# Altium schematic symbol library Connector.SchLib: 400 symbols (part 1 of 5)
Pins are listed as number, name and electrical type; pins without a type are passive.

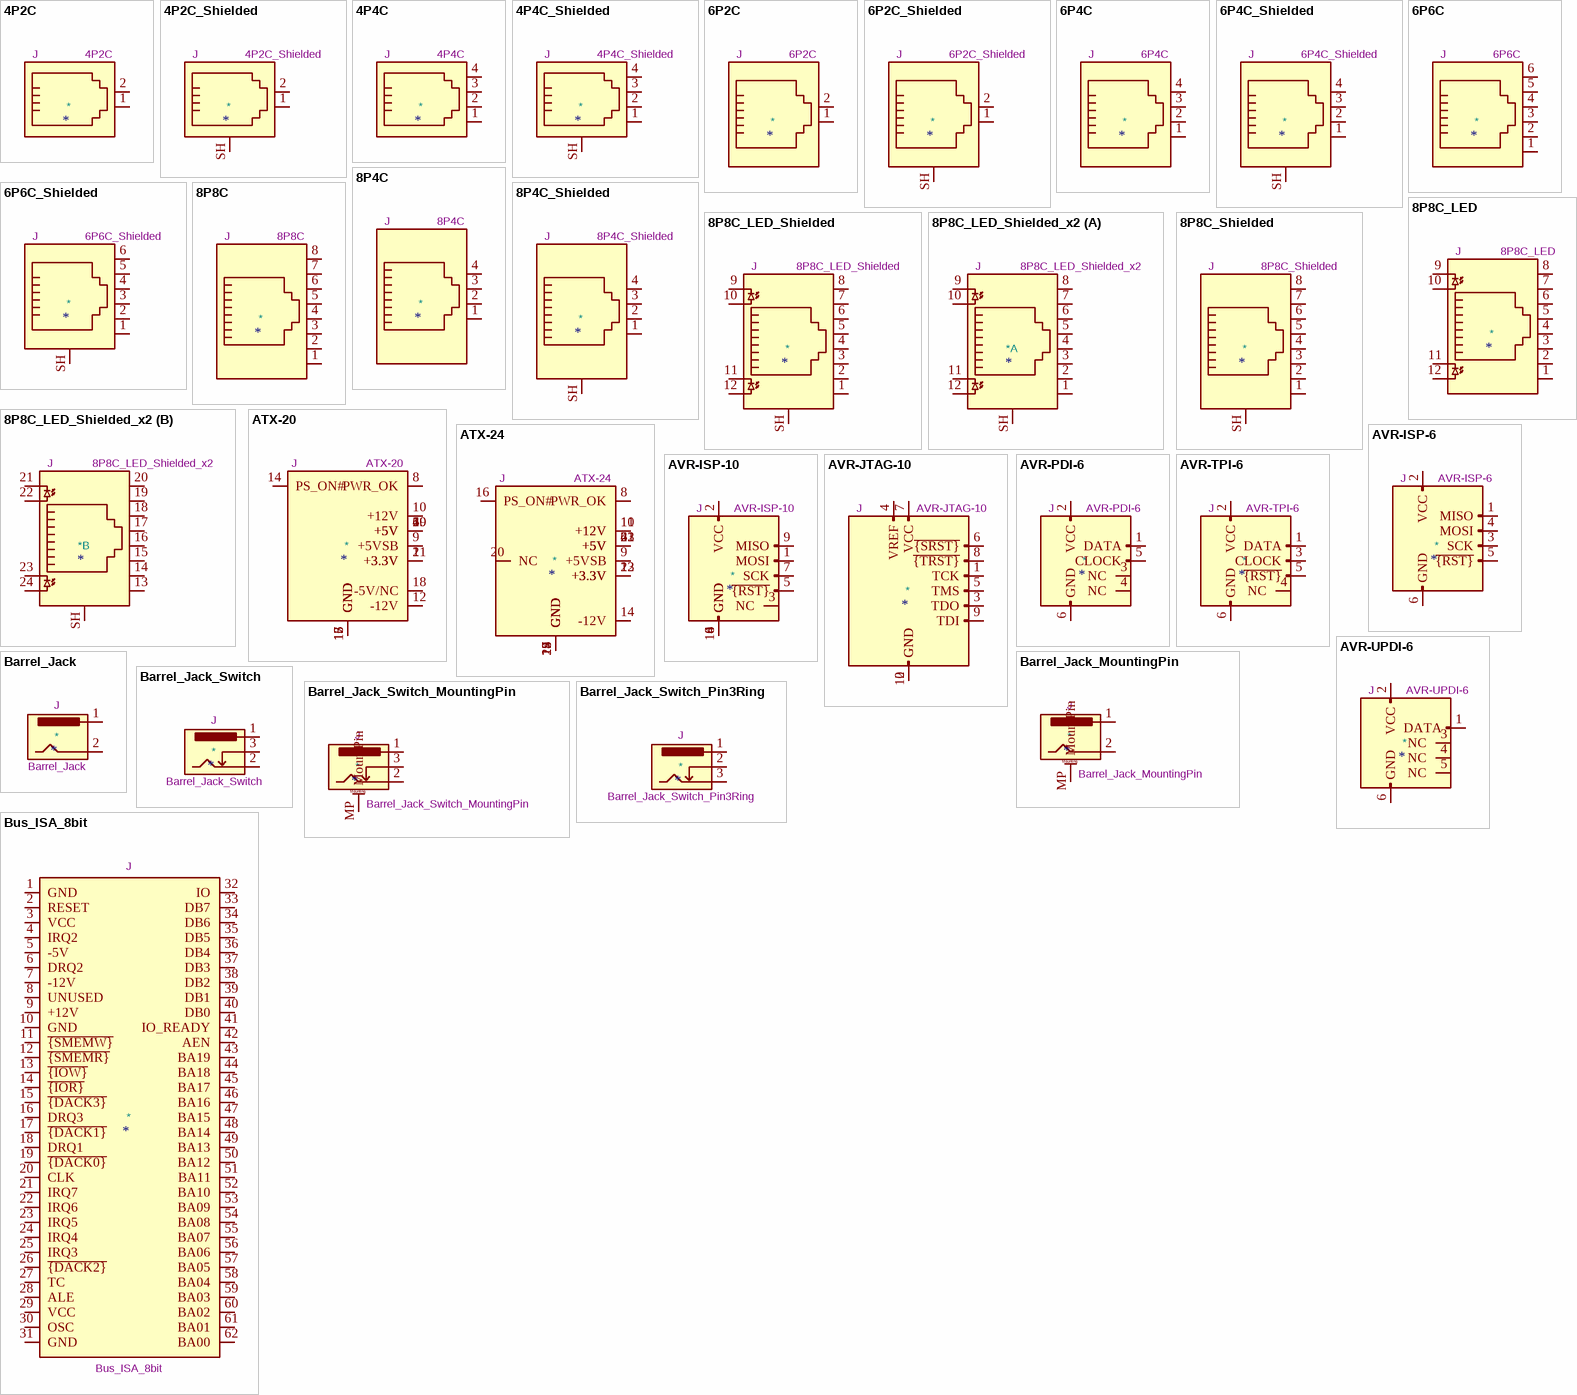
[diagram p0: symbols 4P2C to Bus_ISA_8bit]

## 4P2C
designator *  value 4P2C  Reference: J
RJ connector, 4P2C (4 positions 2 connected); ki_keywords: 4P2C RJ socket connector; ki_fp_filters: 4P2C*; Datasheet: ~; Description_: RJ connector, 4P2C (4 positions 2 connected)
pins: 1, 2

## 4P2C_Shielded
designator *  value 4P2C_Shielded  Reference: J
RJ connector, 4P2C (4 positions 2 connected), Shielded; ki_keywords: 4P2C RJ socket connector; ki_fp_filters: 4P2C*; Datasheet: ~; Description_: RJ connector, 4P2C (4 positions 2 connected), Shielded
pins: 1, 2, SH

## 4P4C
designator *  value 4P4C  Reference: J
RJ connector, 4P4C (4 positions 4 connected), RJ9/RJ10/RJ22; ki_keywords: 4P4C RJ socket connector; ki_fp_filters: 4P4C* RJ9* RJ10* RJ22*; Datasheet: ~; Description_: RJ connector, 4P4C (4 positions 4 connected), RJ9/RJ10/RJ22
pins: 1, 2, 3, 4

## 4P4C_Shielded
designator *  value 4P4C_Shielded  Reference: J
RJ connector, 4P4C (4 positions 4 connected), RJ9/RJ10/RJ22, Shielded; ki_keywords: 4P4C RJ socket connector; ki_fp_filters: 4P4C* RJ9* RJ10* RJ22*; Datasheet: ~; Description_: RJ connector, 4P4C (4 positions 4 connected), RJ9/RJ10/RJ22, Shielded
pins: 1, 2, 3, 4, SH

## 6P2C
designator *  value 6P2C  Reference: J
RJ connector, 6P2C (6 positions 2 connected), RJ11; ki_keywords: 6P2C RJ socket connector; ki_fp_filters: 6P2C* RJ11*; Datasheet: ~; Description_: RJ connector, 6P2C (6 positions 2 connected), RJ11
pins: 1, 2

## 6P2C_Shielded
designator *  value 6P2C_Shielded  Reference: J
RJ connector, 6P2C (6 positions 2 connected), RJ11, Shielded; ki_keywords: 6P2C RJ socket connector; ki_fp_filters: 6P2C* RJ11*; Datasheet: ~; Description_: RJ connector, 6P2C (6 positions 2 connected), RJ11, Shielded
pins: 1, 2, SH

## 6P4C
designator *  value 6P4C  Reference: J
RJ connector, 6P4C (6 positions 4 connected), RJ13/RJ14; ki_keywords: 6P4C RJ socket connector; ki_fp_filters: 6P4C* RJ13* RJ14*; Datasheet: ~; Description_: RJ connector, 6P4C (6 positions 4 connected), RJ13/RJ14
pins: 1, 2, 3, 4

## 6P4C_Shielded
designator *  value 6P4C_Shielded  Reference: J
RJ connector, 6P4C (6 positions 4 connected), RJ13/RJ14, Shielded; ki_keywords: 6P4C RJ socket connector; ki_fp_filters: 6P4C* RJ13* RJ14*; Datasheet: ~; Description_: RJ connector, 6P4C (6 positions 4 connected), RJ13/RJ14, Shielded
pins: 1, 2, 3, 4, SH

## 6P6C
designator *  value 6P6C  Reference: J
RJ connector, 6P6C (6 positions 6 connected), RJ12/RJ18/RJ25; ki_keywords: 6P6C RJ socket connector; ki_fp_filters: 6P6C* RJ12* RJ18* RJ25*; Datasheet: ~; Description_: RJ connector, 6P6C (6 positions 6 connected), RJ12/RJ18/RJ25
pins: 1, 2, 3, 4, 5, 6

## 6P6C_Shielded
designator *  value 6P6C_Shielded  Reference: J
RJ connector, 6P6C (6 positions 6 connected), RJ12/RJ18/RJ25, Shielded; ki_keywords: 6P6C RJ socket connector; ki_fp_filters: 6P6C* RJ12* RJ18* RJ25*; Datasheet: ~; Description_: RJ connector, 6P6C (6 positions 6 connected), RJ12/RJ18/RJ25, Shielded
pins: 1, 2, 3, 4, 5, 6, SH

## 8P4C
designator *  value 8P4C  Reference: J
RJ connector, 8P4C (8 positions 4 connected), RJ38/RJ48; ki_keywords: 8P4C RJ socket connector; ki_fp_filters: 8P4C* RJ38* RJ48*; Datasheet: ~; Description_: RJ connector, 8P4C (8 positions 4 connected), RJ38/RJ48
pins: 1, 2, 3, 4

## 8P4C_Shielded
designator *  value 8P4C_Shielded  Reference: J
RJ connector, 8P4C (8 positions 4 connected), RJ38/RJ48, Shielded; ki_keywords: 8P4C RJ socket connector; ki_fp_filters: 8P4C* RJ38* RJ48*; Datasheet: ~; Description_: RJ connector, 8P4C (8 positions 4 connected), RJ38/RJ48, Shielded
pins: 1, 2, 3, 4, SH

## 8P8C
designator *  value 8P8C  Reference: J
RJ connector, 8P8C (8 positions 8 connected), RJ31/RJ32/RJ33/RJ34/RJ35/RJ41/RJ45/RJ49/RJ61; ki_keywords: 8P8C RJ socket connector; ki_fp_filters: 8P8C* RJ31* RJ32* RJ33* RJ34* RJ35* RJ41* RJ45* RJ49* RJ61*; Datasheet: ~; Description_: RJ connector, 8P8C (8 positions 8 connected), RJ31/RJ32/RJ33/RJ34/RJ35/RJ41/RJ45/RJ49/RJ61
pins: 1, 2, 3, 4, 5, 6, 7, 8

## 8P8C_LED
designator *  value 8P8C_LED  Reference: J
RJ connector, 8P8C (8 positions 8 connected), two LEDs, RJ45; ki_keywords: 8P8C RJ socket connector led; ki_fp_filters: 8P8C* RJ45*; Datasheet: ~; Description_: RJ connector, 8P8C (8 positions 8 connected), two LEDs, RJ45
pins: 1, 2, 3, 4, 5, 6, 7, 8, 9, 10, 11, 12

## 8P8C_LED_Shielded
designator *  value 8P8C_LED_Shielded  Reference: J
RJ connector, 8P8C (8 positions 8 connected), two LEDs, RJ45, Shielded; ki_keywords: 8P8C RJ socket connector led; ki_fp_filters: 8P8C* RJ45*; Datasheet: ~; Description_: RJ connector, 8P8C (8 positions 8 connected), two LEDs, RJ45, Shielded
pins: 1, 2, 3, 4, 5, 6, 7, 8, 9, 10, 11, 12, SH

## 8P8C_LED_Shielded_x2
designator *  value 8P8C_LED_Shielded_x2  Reference: J
RJ connector, 8P8C (8 positions 8 connected), two LEDs, RJ45, Shielded, two ports; ki_keywords: 8P8C RJ socket connector led dual; ki_fp_filters: 8P8C*02* RJ45*02*; Datasheet: ~; Description_: RJ connector, 8P8C (8 positions 8 connected), two LEDs, RJ45, Shielded, two ports
part A pins: 1, 2, 3, 4, 5, 6, 7, 8, 9, 10, 11, 12, SH
part B pins: 13, 14, 15, 16, 17, 18, 19, 20, 21, 22, 23, 24, SH

## 8P8C_Shielded
designator *  value 8P8C_Shielded  Reference: J
RJ connector, 8P8C (8 positions 8 connected), RJ31/RJ32/RJ33/RJ34/RJ35/RJ41/RJ45/RJ49/RJ61, Shielded; ki_keywords: 8P8C RJ socket connector; ki_fp_filters: 8P8C* RJ31* RJ32* RJ33* RJ34* RJ35* RJ41* RJ45* RJ49* RJ61*; Datasheet: ~; Description_: RJ connector, 8P8C (8 positions 8 connected), RJ31/RJ32/RJ33/RJ34/RJ35/RJ41/RJ45/RJ49/RJ61, Shielded
pins: 1, 2, 3, 4, 5, 6, 7, 8, SH

## ATX-20
designator *  value ATX-20  Reference: J
ATX Power supply 20pins; ki_keywords: ATX PSU; ki_fp_filters: *Mini?Fit*2x10*Vertical* *Mini?Fit*2x10*Horizontal*; Datasheet: https://web.aub.edu.lb/pub/docs/atx_201.pdf#page=20; Description_: ATX Power supply 20pins
pins: 1 +3.3V, 2 +3.3V, 3 GND, 4 +5V, 5 GND, 6 +5V, 7 GND, 8 PWR_OK, 9 +5VSB, 10 +12V, 11 +3.3V, 12 -12V, 13 GND, 14 PS_ON#, 15 GND, 16 GND, 17 GND, 18 -5V/NC, 19 +5V, 20 +5V

## ATX-24
designator *  value ATX-24  Reference: J
ATX Power supply 24pins; ki_keywords: ATX PSU; ki_fp_filters: *Mini?Fit*2x12*Vertical* *Mini?Fit*2x12*Horizontal*; Datasheet: https://www.intel.com/content/dam/www/public/us/en/documents/guides/power-supply-design-guide-june.pdf#page=33; Description_: ATX Power supply 24pins
pins: 1 +3.3V, 2 +3.3V, 3 GND, 4 +5V, 5 GND, 6 +5V, 7 GND, 8 PWR_OK, 9 +5VSB, 10 +12V, 11 +12V, 12 +3.3V, 13 +3.3V, 14 -12V, 15 GND, 16 PS_ON#, 17 GND, 18 GND, 19 GND, 20 NC, 21 +5V, 22 +5V, 23 +5V, 24 GND

## AVR-ISP-6
designator *  value AVR-ISP-6  Reference: J
Atmel 6-pin ISP connector; ki_keywords: AVR ISP Connector; ki_fp_filters: IDC?Header*2x03* Pin?Header*2x03*; Datasheet: ~; Description_: Atmel 6-pin ISP connector
pins: 1 MISO, 2 VCC, 3 SCK, 4 MOSI, 5 ~{{RST}}, 6 GND

## AVR-ISP-10
designator *  value AVR-ISP-10  Reference: J
Atmel 10-pin ISP connector; ki_keywords: AVR ISP Connector; ki_fp_filters: IDC?Header*2x05* Pin?Header*2x05*; Datasheet: ~; Description_: Atmel 10-pin ISP connector
pins: 1 MOSI, 2 VCC, 3 NC, 4 GND, 5 ~{{RST}}, 6 GND, 7 SCK, 8 GND, 9 MISO, 10 GND

## AVR-JTAG-10
designator *  value AVR-JTAG-10  Reference: J
Atmel 10-pin JTAG connector; ki_keywords: AVR JTAG Connector; ki_fp_filters: IDC?Header*2x05* Pin?Header*2x05*; Datasheet: ~; Description_: Atmel 10-pin JTAG connector
pins: 1 TCK, 2 GND, 3 TDO, 4 VREF, 5 TMS, 6 ~{{SRST}}, 7 VCC, 8 ~{{TRST}}, 9 TDI, 10 GND

## AVR-PDI-6
designator *  value AVR-PDI-6  Reference: J
Atmel 6-pin PDI connector; ki_keywords: AVR PDI Connector; ki_fp_filters: IDC?Header*2x03* Pin?Header*2x03*; Datasheet: ~; Description_: Atmel 6-pin PDI connector
pins: 1 DATA, 2 VCC, 3 NC, 4 NC, 5 CLOCK, 6 GND

## AVR-TPI-6
designator *  value AVR-TPI-6  Reference: J
Atmel 6-pin TPI connector; ki_keywords: AVR TPI Connector; ki_fp_filters: IDC?Header*2x03* Pin?Header*2x03*; Datasheet: ~; Description_: Atmel 6-pin TPI connector
pins: 1 DATA, 2 VCC, 3 CLOCK, 4 NC, 5 ~{{RST}}, 6 GND

## AVR-UPDI-6
designator *  value AVR-UPDI-6  Reference: J
Atmel 6-pin UPDI connector; ki_keywords: AVR UPDI Connector; ki_fp_filters: IDC?Header*2x03* Pin?Header*2x03*; Datasheet: https://www.microchip.com/webdoc/GUID-9D10622A-5C16-4405-B092-1BDD437B4976/index.html?GUID-9B349315-2842-4189-B88C-49F4E1055D7F; Description_: Atmel 6-pin UPDI connector
pins: 1 DATA, 2 VCC, 3 NC, 4 NC, 5 NC, 6 GND

## Barrel_Jack
designator *  value Barrel_Jack  Reference: J
DC Barrel Jack; ki_keywords: DC power barrel jack connector; ki_fp_filters: BarrelJack*; Datasheet: ~; Description_: DC Barrel Jack
pins: 1, 2

## Barrel_Jack_MountingPin
designator *  value Barrel_Jack_MountingPin  Reference: J
DC Barrel Jack with a mounting pin; ki_keywords: DC power barrel jack connector; ki_fp_filters: BarrelJack*; Datasheet: ~; Description_: DC Barrel Jack with a mounting pin
pins: 1, 2, MP MountPin
text: Mounting

## Barrel_Jack_Switch
designator *  value Barrel_Jack_Switch  Reference: J
DC Barrel Jack with an internal switch; ki_keywords: DC power barrel jack connector; ki_fp_filters: BarrelJack*; Datasheet: ~; Description_: DC Barrel Jack with an internal switch
pins: 1, 2, 3

## Barrel_Jack_Switch_MountingPin
designator *  value Barrel_Jack_Switch_MountingPin  Reference: J
DC Barrel Jack with an internal switch and a mounting pin; ki_keywords: DC power barrel jack connector; ki_fp_filters: BarrelJack*; Datasheet: ~; Description_: DC Barrel Jack with an internal switch and a mounting pin
pins: 1, 2, 3, MP MountPin
text: Mounting

## Barrel_Jack_Switch_Pin3Ring
designator *  value Barrel_Jack_Switch_Pin3Ring  Reference: J
DC Barrel Jack with an internal switch; ki_keywords: DC power barrel jack connector; ki_fp_filters: BarrelJack*; Datasheet: ~; Description_: DC Barrel Jack with an internal switch
pins: 1, 2, 3

## Bus_ISA_8bit
designator *  value Bus_ISA_8bit  Reference: J
8-bit ISA-PC bus connector; ki_keywords: ISA; Datasheet: https://en.wikipedia.org/wiki/Industry_Standard_Architecture; Description_: 8-bit ISA-PC bus connector
pins: 1 GND, 2 RESET, 3 VCC, 4 IRQ2, 5 -5V, 6 DRQ2, 7 -12V, 8 UNUSED, 9 +12V, 10 GND, 11 ~{{SMEMW}}, 12 ~{{SMEMR}}, 13 ~{{IOW}}, 14 ~{{IOR}}, 15 ~{{DACK3}}, 16 DRQ3, 17 ~{{DACK1}}, 18 DRQ1, 19 ~{{DACK0}}, 20 CLK, 21 IRQ7, 22 IRQ6, 23 IRQ5, 24 IRQ4, 25 IRQ3, 26 ~{{DACK2}}, 27 TC, 28 ALE, 29 VCC, 30 OSC, 31 GND, 32 IO, 33 DB7, 34 DB6, 35 DB5, 36 DB4, 37 DB3, 38 DB2, 39 DB1, 40 DB0, 41 IO_READY, 42 AEN, 43 BA19, 44 BA18, 45 BA17, 46 BA16, 47 BA15, 48 BA14, 49 BA13, 50 BA12, 51 BA11, 52 BA10, 53 BA09, 54 BA08, 55 BA07, 56 BA06, 57 BA05, 58 BA04, 59 BA03, 60 BA02, 61 BA01, 62 BA00

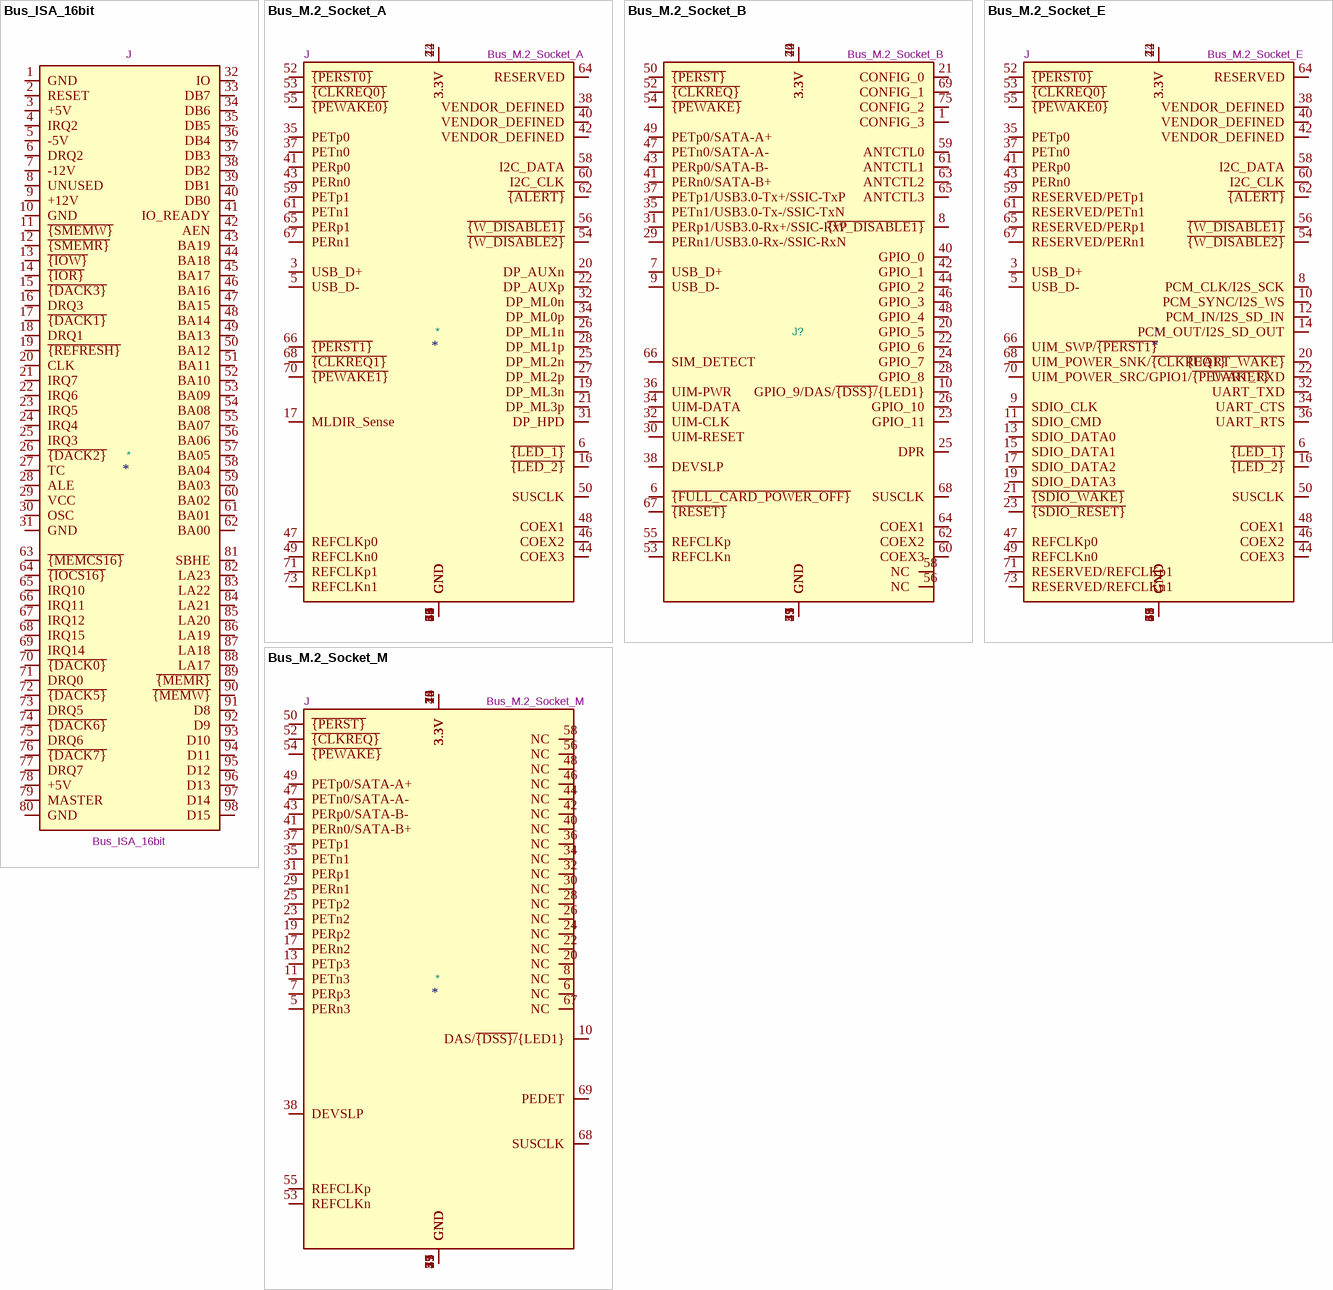
[diagram p1: symbols Bus_ISA_16bit to Bus_M.2_Socket_M]

## Bus_ISA_16bit
designator *  value Bus_ISA_16bit  Reference: J
16-bit ISA-AT bus connector; ki_keywords: ISA; Datasheet: https://en.wikipedia.org/wiki/Industry_Standard_Architecture; Description_: 16-bit ISA-AT bus connector
pins: 1 GND, 2 RESET, 3 +5V, 4 IRQ2, 5 -5V, 6 DRQ2, 7 -12V, 8 UNUSED, 9 +12V, 10 GND, 11 ~{{SMEMW}}, 12 ~{{SMEMR}}, 13 ~{{IOW}}, 14 ~{{IOR}}, 15 ~{{DACK3}}, 16 DRQ3, 17 ~{{DACK1}}, 18 DRQ1, 19 ~{{REFRESH}}, 20 CLK, 21 IRQ7, 22 IRQ6, 23 IRQ5, 24 IRQ4, 25 IRQ3, 26 ~{{DACK2}}, 27 TC, 28 ALE, 29 VCC, 30 OSC, 31 GND, 32 IO, 33 DB7, 34 DB6, 35 DB5, 36 DB4, 37 DB3, 38 DB2, 39 DB1, 40 DB0, 41 IO_READY, 42 AEN, 43 BA19, 44 BA18, 45 BA17, 46 BA16, 47 BA15, 48 BA14, 49 BA13, 50 BA12, 51 BA11, 52 BA10, 53 BA09, 54 BA08, 55 BA07, 56 BA06, 57 BA05, 58 BA04, 59 BA03, 60 BA02, 61 BA01, 62 BA00, 63 ~{{MEMCS16}}, 64 ~{{IOCS16}}, 65 IRQ10, 66 IRQ11, 67 IRQ12, 68 IRQ15, 69 IRQ14, 70 ~{{DACK0}}, 71 DRQ0, 72 ~{{DACK5}}, 73 DRQ5, 74 ~{{DACK6}}, 75 DRQ6, 76 ~{{DACK7}}, 77 DRQ7, 78 +5V, 79 MASTER, 80 GND, 81 SBHE, 82 LA23, 83 LA22, 84 LA21, 85 LA20, 86 LA19, 87 LA18, 88 LA17, 89 ~{{MEMR}}, 90 ~{{MEMW}}, 91 D8, 92 D9, 93 D10, 94 D11, 95 D12, 96 D13, 97 D14, 98 D15

## Bus_M.2_Socket_A
designator *  value Bus_M.2_Socket_A  Reference: J
M.2 Socket 1-DP Mechanical Key A; ki_keywords: M2 NGNF PCI-E; ki_fp_filters: *M*2*A*; Datasheet: https://web.archive.org/web/20200613074028/http://read.pudn.com/downloads794/doc/project/3133918/PCIe_M.2_Electromechanical_Spec_Rev1.0_Final_11012013_RS_Clean.pdf#page=148; Description_: M.2 Socket 1-DP Mechanical Key A
pins: 1 GND, 2 3.3V, 3 USB_D+, 4 3.3V, 5 USB_D-, 6 ~{{LED_1}}, 7 GND, 16 ~{{LED_2}}, 17 MLDIR_Sense, 18 GND, 19 DP_ML3n, 20 DP_AUXn, 21 DP_ML3p, 22 DP_AUXp, 23 GND, 24 GND, 25 DP_ML2n, 26 DP_ML1n, 27 DP_ML2p, 28 DP_ML1p, 29 GND, 30 GND, 31 DP_HPD, 32 DP_ML0n, 33 GND, 34 DP_ML0p, 35 PETp0, 36 GND, 37 PETn0, 38 VENDOR_DEFINED, 39 GND, 40 VENDOR_DEFINED, 41 PERp0, 42 VENDOR_DEFINED, 43 PERn0, 44 COEX3, 45 GND, 46 COEX2, 47 REFCLKp0, 48 COEX1, 49 REFCLKn0, 50 SUSCLK, 51 GND, 52 ~{{PERST0}}, 53 ~{{CLKREQ0}}, 54 ~{{W_DISABLE2}}, 55 ~{{PEWAKE0}}, 56 ~{{W_DISABLE1}}, 57 GND, 58 I2C_DATA, 59 PETp1, 60 I2C_CLK, 61 PETn1, 62 ~{{ALERT}}, 63 GND, 64 RESERVED, 65 PERp1, 66 ~{{PERST1}}, 67 PERn1, 68 ~{{CLKREQ1}}, 69 GND, 70 ~{{PEWAKE1}}, 71 REFCLKp1, 72 3.3V, 73 REFCLKn1, 74 3.3V, 75 GND

## Bus_M.2_Socket_B
designator J?  value Bus_M.2_Socket_B  (hidden comment: *)
M.2 Socket 2 Mechanical Key B; ki_keywords: M2 NGNF PCI-E; ki_fp_filters: *M*2*B*; Reference: J; Datasheet: https://web.archive.org/web/20200613074028/http://read.pudn.com/downloads794/doc/project/3133918/PCIe_M.2_Electromechanical_Spec_Rev1.0_Final_11012013_RS_Clean.pdf#page=154; Description_: M.2 Socket 2 Mechanical Key B
footprint Bus_M.2_Socket_B
pins: 1 CONFIG_3, 2 3.3V, 3 GND, 4 3.3V, 5 GND, 6 ~{{FULL_CARD_POWER_OFF}}, 7 USB_D+, 8 ~{{W_DISABLE1}}, 9 USB_D-, 10 GPIO_9/DAS/~{{DSS}/}{LED1}, 11 GND, 20 GPIO_5, 21 CONFIG_0, 22 GPIO_6, 23 GPIO_11, 24 GPIO_7, 25 DPR, 26 GPIO_10, 27 GND, 28 GPIO_8, 29 PERn1/USB3.0-Rx-/SSIC-RxN, 30 UIM-RESET, 31 PERp1/USB3.0-Rx+/SSIC-RxP, 32 UIM-CLK, 33 GND, 34 UIM-DATA, 35 PETn1/USB3.0-Tx-/SSIC-TxN, 36 UIM-PWR, 37 PETp1/USB3.0-Tx+/SSIC-TxP, 38 DEVSLP, 39 GND, 40 GPIO_0, 41 PERn0/SATA-B+, 42 GPIO_1, 43 PERp0/SATA-B-, 44 GPIO_2, 45 GND, 46 GPIO_3, 47 PETn0/SATA-A-, 48 GPIO_4, 49 PETp0/SATA-A+, 50 ~{{PERST}}, 51 GND, 52 ~{{CLKREQ}}, 53 REFCLKn, 54 ~{{PEWAKE}}, 55 REFCLKp, 56 NC, 57 GND, 58 NC, 59 ANTCTL0, 60 COEX3, 61 ANTCTL1, 62 COEX2, 63 ANTCTL2, 64 COEX1, 65 ANTCTL3, 66 SIM_DETECT, 67 ~{{RESET}}, 68 SUSCLK, 69 CONFIG_1, 70 3.3V, 71 GND, 72 3.3V, 73 GND, 74 3.3V, 75 CONFIG_2

## Bus_M.2_Socket_E
designator *  value Bus_M.2_Socket_E  Reference: J
M.2 Socket 1-SD Mechanical Key E; ki_keywords: M2 NGNF PCI-E; ki_fp_filters: *M*2*E*; Datasheet: https://web.archive.org/web/20200613074028/http://read.pudn.com/downloads794/doc/project/3133918/PCIe_M.2_Electromechanical_Spec_Rev1.0_Final_11012013_RS_Clean.pdf#page=150; Description_: M.2 Socket 1-SD Mechanical Key E
pins: 1 GND, 2 3.3V, 3 USB_D+, 4 3.3V, 5 USB_D-, 6 ~{{LED_1}}, 7 GND, 8 PCM_CLK/I2S_SCK, 9 SDIO_CLK, 10 PCM_SYNC/I2S_WS, 11 SDIO_CMD, 12 PCM_IN/I2S_SD_IN, 13 SDIO_DATA0, 14 PCM_OUT/I2S_SD_OUT, 15 SDIO_DATA1, 16 ~{{LED_2}}, 17 SDIO_DATA2, 18 GND, 19 SDIO_DATA3, 20 ~{{UART_WAKE}}, 21 ~{{SDIO_WAKE}}, 22 UART_RXD, 23 ~{{SDIO_RESET}}, 32 UART_TXD, 33 GND, 34 UART_CTS, 35 PETp0, 36 UART_RTS, 37 PETn0, 38 VENDOR_DEFINED, 39 GND, 40 VENDOR_DEFINED, 41 PERp0, 42 VENDOR_DEFINED, 43 PERn0, 44 COEX3, 45 GND, 46 COEX2, 47 REFCLKp0, 48 COEX1, 49 REFCLKn0, 50 SUSCLK, 51 GND, 52 ~{{PERST0}}, 53 ~{{CLKREQ0}}, 54 ~{{W_DISABLE2}}, 55 ~{{PEWAKE0}}, 56 ~{{W_DISABLE1}}, 57 GND, 58 I2C_DATA, 59 RESERVED/PETp1, 60 I2C_CLK, 61 RESERVED/PETn1, 62 ~{{ALERT}}, 63 GND, 64 RESERVED, 65 RESERVED/PERp1, 66 UIM_SWP/~{{PERST1}}, 67 RESERVED/PERn1, 68 UIM_POWER_SNK/~{{CLKREQ1}}, 69 GND, 70 UIM_POWER_SRC/GPIO1/~{{PEWAKE1}}, 71 RESERVED/REFCLKp1, 72 3.3V, 73 RESERVED/REFCLKn1, 74 3.3V, 75 GND

## Bus_M.2_Socket_M
designator *  value Bus_M.2_Socket_M  Reference: J
M.2 Socket 3 Mechanical Key M; ki_keywords: M2 NGNF PCI-E; ki_fp_filters: *M*2*M*; Datasheet: https://web.archive.org/web/20200613074028/http://read.pudn.com/downloads794/doc/project/3133918/PCIe_M.2_Electromechanical_Spec_Rev1.0_Final_11012013_RS_Clean.pdf#page=155; Description_: M.2 Socket 3 Mechanical Key M
pins: 1 GND, 2 3.3V, 3 GND, 4 3.3V, 5 PERn3, 6 NC, 7 PERp3, 8 NC, 9 GND, 10 DAS/~{{DSS}/}{LED1}, 11 PETn3, 12 3.3V, 13 PETp3, 14 3.3V, 15 GND, 16 3.3V, 17 PERn2, 18 3.3V, 19 PERp2, 20 NC, 21 GND, 22 NC, 23 PETn2, 24 NC, 25 PETp2, 26 NC, 27 GND, 28 NC, 29 PERn1, 30 NC, 31 PERp1, 32 NC, 33 GND, 34 NC, 35 PETn1, 36 NC, 37 PETp1, 38 DEVSLP, 39 GND, 40 NC, 41 PERn0/SATA-B+, 42 NC, 43 PERp0/SATA-B-, 44 NC, 45 GND, 46 NC, 47 PETn0/SATA-A-, 48 NC, 49 PETp0/SATA-A+, 50 ~{{PERST}}, 51 GND, 52 ~{{CLKREQ}}, 53 REFCLKn, 54 ~{{PEWAKE}}, 55 REFCLKp, 56 NC, 57 GND, 58 NC, 67 NC, 68 SUSCLK, 69 PEDET, 70 3.3V, 71 GND, 72 3.3V, 73 GND, 74 3.3V, 75 GND

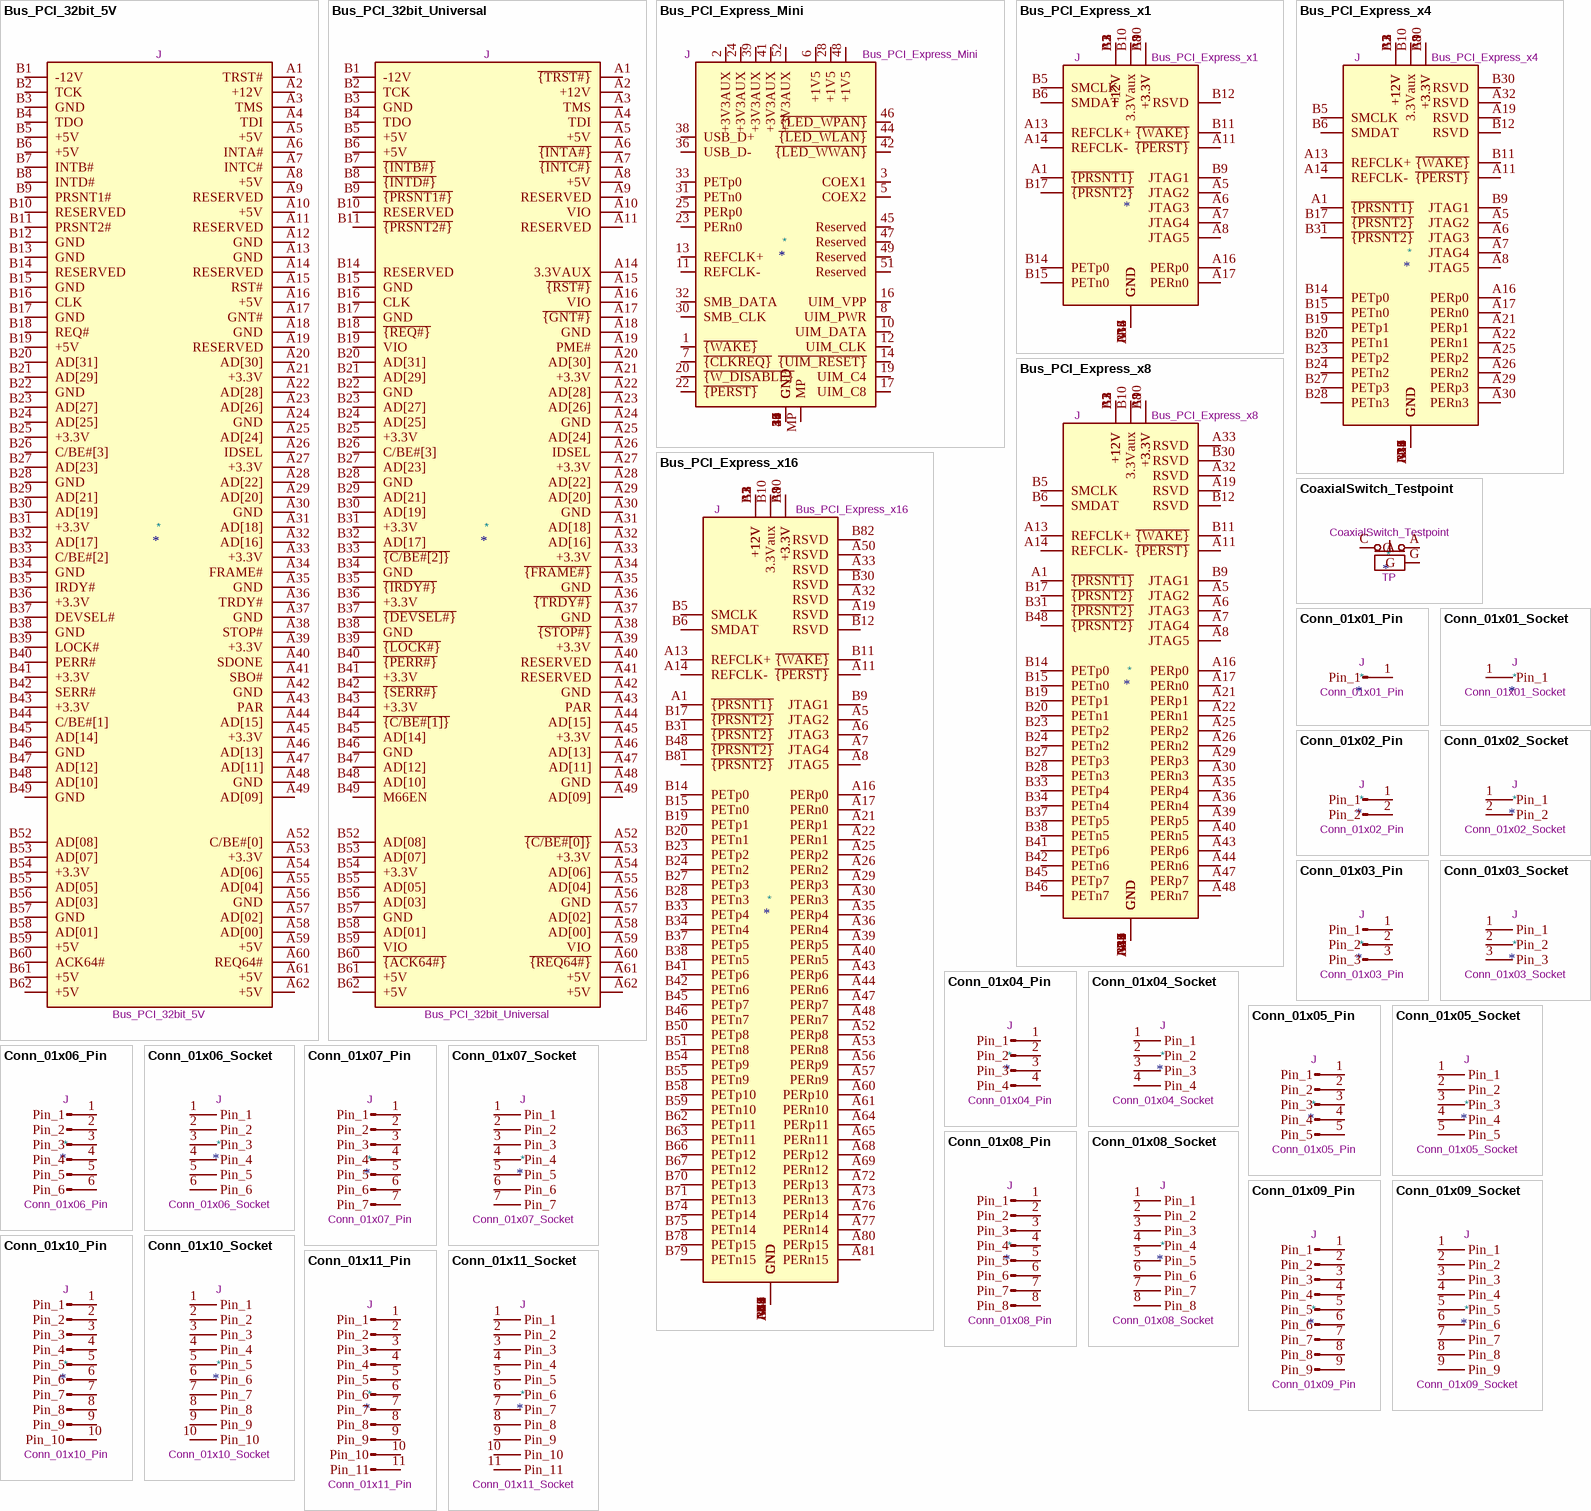
[diagram p2: symbols Bus_PCI_32bit_5V to Conn_01x11_Socket]

## Bus_PCI_32bit_5V
designator *  value Bus_PCI_32bit_5V  Reference: J
PCI bus connector for 5V cards; ki_keywords: PCI 5V; Datasheet: http://pinouts.ru/Slots/PCI_pinout.shtml; Description_: PCI bus connector for 5V cards
pins: A1 TRST#, A2 +12V, A3 TMS, A4 TDI, A5 +5V, A6 INTA#, A7 INTC#, A8 +5V, A9 RESERVED, A10 +5V, A11 RESERVED, A12 GND, A13 GND, A14 RESERVED, A15 RST#, A16 +5V, A17 GNT#, A18 GND, A19 RESERVED, A20 AD[30], A21 +3.3V, A22 AD[28], A23 AD[26], A24 GND, A25 AD[24], A26 IDSEL, A27 +3.3V, A28 AD[22], A29 AD[20], A30 GND, A31 AD[18], A32 AD[16], A33 +3.3V, A34 FRAME#, A35 GND, A36 TRDY#, A37 GND, A38 STOP#, A39 +3.3V, A40 SDONE, A41 SBO#, A42 GND, A43 PAR, A44 AD[15], A45 +3.3V, A46 AD[13], A47 AD[11], A48 GND, A49 AD[09], A52 C/BE#[0], A53 +3.3V, A54 AD[06], A55 AD[04], A56 GND, A57 AD[02], A58 AD[00], A59 +5V, A60 REQ64#, A61 +5V, A62 +5V, B1 -12V, B2 TCK, B3 GND, B4 TDO, B5 +5V, B6 +5V, B7 INTB#, B8 INTD#, B9 PRSNT1#, B10 RESERVED, B11 PRSNT2#, B12 GND, B13 GND, B14 RESERVED, B15 GND, B16 CLK, B17 GND, B18 REQ#, B19 +5V, B20 AD[31], B21 AD[29], B22 GND, B23 AD[27], B24 AD[25], B25 +3.3V, B26 C/BE#[3], B27 AD[23], B28 GND, B29 AD[21], B30 AD[19], B31 +3.3V, B32 AD[17], B33 C/BE#[2], B34 GND, B35 IRDY#, B36 +3.3V, B37 DEVSEL#, B38 GND, B39 LOCK#, B40 PERR#, B41 +3.3V, B42 SERR#, B43 +3.3V, B44 C/BE#[1], B45 AD[14], B46 GND, B47 AD[12], B48 AD[10], B49 GND, B52 AD[08], B53 AD[07], B54 +3.3V, B55 AD[05], B56 AD[03], B57 GND, B58 AD[01], B59 +5V, B60 ACK64#, B61 +5V, B62 +5V

## Bus_PCI_32bit_Universal
designator *  value Bus_PCI_32bit_Universal  Reference: J
PCI bus connector for universal 5V/3.3V cards; ki_keywords: PCI 5V 3.3V 3V3; Datasheet: http://pinouts.ru/Slots/PCI_pinout.shtml; Description_: PCI bus connector for universal 5V/3.3V cards
pins: A1 ~{{TRST#}}, A2 +12V, A3 TMS, A4 TDI, A5 +5V, A6 ~{{INTA#}}, A7 ~{{INTC#}}, A8 +5V, A9 RESERVED, A10 VIO, A11 RESERVED, A14 3.3VAUX, A15 ~{{RST#}}, A16 VIO, A17 ~{{GNT#}}, A18 GND, A19 PME#, A20 AD[30], A21 +3.3V, A22 AD[28], A23 AD[26], A24 GND, A25 AD[24], A26 IDSEL, A27 +3.3V, A28 AD[22], A29 AD[20], A30 GND, A31 AD[18], A32 AD[16], A33 +3.3V, A34 ~{{FRAME#}}, A35 GND, A36 ~{{TRDY#}}, A37 GND, A38 ~{{STOP#}}, A39 +3.3V, A40 RESERVED, A41 RESERVED, A42 GND, A43 PAR, A44 AD[15], A45 +3.3V, A46 AD[13], A47 AD[11], A48 GND, A49 AD[09], A52 ~{{C/BE#[0]}}, A53 +3.3V, A54 AD[06], A55 AD[04], A56 GND, A57 AD[02], A58 AD[00], A59 VIO, A60 ~{{REQ64#}}, A61 +5V, A62 +5V, B1 -12V, B2 TCK, B3 GND, B4 TDO, B5 +5V, B6 +5V, B7 ~{{INTB#}}, B8 ~{{INTD#}}, B9 ~{{PRSNT1#}}, B10 RESERVED, B11 ~{{PRSNT2#}}, B14 RESERVED, B15 GND, B16 CLK, B17 GND, B18 ~{{REQ#}}, B19 VIO, B20 AD[31], B21 AD[29], B22 GND, B23 AD[27], B24 AD[25], B25 +3.3V, B26 C/BE#[3], B27 AD[23], B28 GND, B29 AD[21], B30 AD[19], B31 +3.3V, B32 AD[17], B33 ~{{C/BE#[2]}}, B34 GND, B35 ~{{IRDY#}}, B36 +3.3V, B37 ~{{DEVSEL#}}, B38 GND, B39 ~{{LOCK#}}, B40 ~{{PERR#}}, B41 +3.3V, B42 ~{{SERR#}}, B43 +3.3V, B44 ~{{C/BE#[1]}}, B45 AD[14], B46 GND, B47 AD[12], B48 AD[10], B49 M66EN, B52 AD[08], B53 AD[07], B54 +3.3V, B55 AD[05], B56 AD[03], B57 GND, B58 AD[01], B59 VIO, B60 ~{{ACK64#}}, B61 +5V, B62 +5V

## Bus_PCI_Express_Mini
designator *  value Bus_PCI_Express_Mini  Reference: J
Mini-PCI Express bus connector; ki_keywords: mini pcie; ki_fp_filters: *PCI*Express*Mini*; Datasheet: ~; Description_: Mini-PCI Express bus connector
pins: 1 ~{{WAKE}}, 2 +3V3AUX, 3 COEX1, 4 GND, 5 COEX2, 6 +1V5, 7 ~{{CLKREQ}}, 8 UIM_PWR, 9 GND, 10 UIM_DATA, 11 REFCLK-, 12 UIM_CLK, 13 REFCLK+, 14 ~{{UIM_RESET}}, 15 GND, 16 UIM_VPP, 17 UIM_C8, 18 GND, 19 UIM_C4, 20 ~{{W_DISABLE}}, 21 GND, 22 ~{{PERST}}, 23 PERn0, 24 +3V3AUX, 25 PERp0, 26 GND, 27 GND, 28 +1V5, 29 GND, 30 SMB_CLK, 31 PETn0, 32 SMB_DATA, 33 PETp0, 34 GND, 35 GND, 36 USB_D-, 37 GND, 38 USB_D+, 39 +3V3AUX, 40 GND, 41 +3V3AUX, 42 ~{{LED_WWAN}}, 43 GND, 44 ~{{LED_WLAN}}, 45 Reserved, 46 ~{{LED_WPAN}}, 47 Reserved, 48 +1V5, 49 Reserved, 50 GND, 51 Reserved, 52 +3V3AUX, MP

## Bus_PCI_Express_x1
designator *  value Bus_PCI_Express_x1  Reference: J
PCI Express bus connector x1; ki_keywords: pcie; ki_fp_filters: *PCIexpress*; Footprint: Connector_PCBEdge:BUS_PCIexpress_x1; Datasheet: http://www.ritrontek.com/uploadfile/2016/1026/20161026105231124.pdf#page=63; Description_: PCI Express bus connector x1
pins: A1 ~{{PRSNT1}}, A2 +12V, A3 +12V, A4 GND, A5 JTAG2, A6 JTAG3, A7 JTAG4, A8 JTAG5, A9 +3.3V, A10 +3.3V, A11 ~{{PERST}}, A12 GND, A13 REFCLK+, A14 REFCLK-, A15 GND, A16 PERp0, A17 PERn0, A18 GND, B1 +12V, B2 +12V, B3 +12V, B4 GND, B5 SMCLK, B6 SMDAT, B7 GND, B8 +3.3V, B9 JTAG1, B10 3.3Vaux, B11 ~{{WAKE}}, B12 RSVD, B13 GND, B14 PETp0, B15 PETn0, B16 GND, B17 ~{{PRSNT2}}, B18 GND

## Bus_PCI_Express_x4
designator *  value Bus_PCI_Express_x4  Reference: J
PCI Express bus connector x4; ki_keywords: pcie; ki_fp_filters: *PCIexpress*; Footprint: Connector_PCBEdge:BUS_PCIexpress_x4; Datasheet: http://www.ritrontek.com/uploadfile/2016/1026/20161026105231124.pdf#page=63; Description_: PCI Express bus connector x4
pins: A1 ~{{PRSNT1}}, A2 +12V, A3 +12V, A4 GND, A5 JTAG2, A6 JTAG3, A7 JTAG4, A8 JTAG5, A9 +3.3V, A10 +3.3V, A11 ~{{PERST}}, A12 GND, A13 REFCLK+, A14 REFCLK-, A15 GND, A16 PERp0, A17 PERn0, A18 GND, A19 RSVD, A20 GND, A21 PERp1, A22 PERn1, A23 GND, A24 GND, A25 PERp2, A26 PERn2, A27 GND, A28 GND, A29 PERp3, A30 PERn3, A31 GND, A32 RSVD, B1 +12V, B2 +12V, B3 +12V, B4 GND, B5 SMCLK, B6 SMDAT, B7 GND, B8 +3.3V, B9 JTAG1, B10 3.3Vaux, B11 ~{{WAKE}}, B12 RSVD, B13 GND, B14 PETp0, B15 PETn0, B16 GND, B17 ~{{PRSNT2}}, B18 GND, B19 PETp1, B20 PETn1, B21 GND, B22 GND, B23 PETp2, B24 PETn2, B25 GND, B26 GND, B27 PETp3, B28 PETn3, B29 GND, B30 RSVD, B31 ~{{PRSNT2}}, B32 GND

## Bus_PCI_Express_x8
designator *  value Bus_PCI_Express_x8  Reference: J
PCI Express bus connector x8; ki_keywords: pcie; ki_fp_filters: *PCIexpress*; Footprint: Connector_PCBEdge:BUS_PCIexpress_x8; Datasheet: http://www.ritrontek.com/uploadfile/2016/1026/20161026105231124.pdf#page=63; Description_: PCI Express bus connector x8
pins: A1 ~{{PRSNT1}}, A2 +12V, A3 +12V, A4 GND, A5 JTAG2, A6 JTAG3, A7 JTAG4, A8 JTAG5, A9 +3.3V, A10 +3.3V, A11 ~{{PERST}}, A12 GND, A13 REFCLK+, A14 REFCLK-, A15 GND, A16 PERp0, A17 PERn0, A18 GND, A19 RSVD, A20 GND, A21 PERp1, A22 PERn1, A23 GND, A24 GND, A25 PERp2, A26 PERn2, A27 GND, A28 GND, A29 PERp3, A30 PERn3, A31 GND, A32 RSVD, A33 RSVD, A34 GND, A35 PERp4, A36 PERn4, A37 GND, A38 GND, A39 PERp5, A40 PERn5, A41 GND, A42 GND, A43 PERp6, A44 PERn6, A45 GND, A46 GND, A47 PERp7, A48 PERn7, A49 GND, B1 +12V, B2 +12V, B3 +12V, B4 GND, B5 SMCLK, B6 SMDAT, B7 GND, B8 +3.3V, B9 JTAG1, B10 3.3Vaux, B11 ~{{WAKE}}, B12 RSVD, B13 GND, B14 PETp0, B15 PETn0, B16 GND, B17 ~{{PRSNT2}}, B18 GND, B19 PETp1, B20 PETn1, B21 GND, B22 GND, B23 PETp2, B24 PETn2, B25 GND, B26 GND, B27 PETp3, B28 PETn3, B29 GND, B30 RSVD, B31 ~{{PRSNT2}}, B32 GND, B33 PETp4, B34 PETn4, B35 GND, B36 GND, B37 PETp5, B38 PETn5, B39 GND, B40 GND, B41 PETp6, B42 PETn6, B43 GND, B44 GND, B45 PETp7, B46 PETn7, B47 GND, B48 ~{{PRSNT2}}, B49 GND

## Bus_PCI_Express_x16
designator *  value Bus_PCI_Express_x16  Reference: J
PCI Express bus connector x16; ki_keywords: pcie; ki_fp_filters: *PCIexpress*; Footprint: Connector_PCBEdge:BUS_PCIexpress_x16; Datasheet: http://www.ritrontek.com/uploadfile/2016/1026/20161026105231124.pdf#page=63; Description_: PCI Express bus connector x16
pins: A1 ~{{PRSNT1}}, A2 +12V, A3 +12V, A4 GND, A5 JTAG2, A6 JTAG3, A7 JTAG4, A8 JTAG5, A9 +3.3V, A10 +3.3V, A11 ~{{PERST}}, A12 GND, A13 REFCLK+, A14 REFCLK-, A15 GND, A16 PERp0, A17 PERn0, A18 GND, A19 RSVD, A20 GND, A21 PERp1, A22 PERn1, A23 GND, A24 GND, A25 PERp2, A26 PERn2, A27 GND, A28 GND, A29 PERp3, A30 PERn3, A31 GND, A32 RSVD, A33 RSVD, A34 GND, A35 PERp4, A36 PERn4, A37 GND, A38 GND, A39 PERp5, A40 PERn5, A41 GND, A42 GND, A43 PERp6, A44 PERn6, A45 GND, A46 GND, A47 PERp7, A48 PERn7, A49 GND, A50 RSVD, A51 GND, A52 PERp8, A53 PERn8, A54 GND, A55 GND, A56 PERp9, A57 PERn9, A58 GND, A59 GND, A60 PERp10, A61 PERn10, A62 GND, A63 GND, A64 PERp11, A65 PERn11, A66 GND, A67 GND, A68 PERp12, A69 PERn12, A70 GND, A71 GND, A72 PERp13, A73 PERn13, A74 GND, A75 GND, A76 PERp14, A77 PERn14, A78 GND, A79 GND, A80 PERp15, A81 PERn15, A82 GND, B1 +12V, B2 +12V, B3 +12V, B4 GND, B5 SMCLK, B6 SMDAT, B7 GND, B8 +3.3V, B9 JTAG1, B10 3.3Vaux, B11 ~{{WAKE}}, B12 RSVD, B13 GND, B14 PETp0, B15 PETn0, B16 GND, B17 ~{{PRSNT2}}, B18 GND, B19 PETp1, B20 PETn1, B21 GND, B22 GND, B23 PETp2, B24 PETn2, B25 GND, B26 GND, B27 PETp3, B28 PETn3, B29 GND, B30 RSVD, B31 ~{{PRSNT2}}, B32 GND, B33 PETp4, B34 PETn4, B35 GND, B36 GND, B37 PETp5, B38 PETn5, B39 GND, B40 GND, B41 PETp6, B42 PETn6, B43 GND, B44 GND, B45 PETp7, B46 PETn7, B47 GND, B48 ~{{PRSNT2}}, B49 GND, B50 PETp8, B51 PETn8, B52 GND, B53 GND, B54 PETp9, B55 PETn9, B56 GND, B57 GND, B58 PETp10, B59 PETn10, B60 GND, B61 GND, B62 PETp11, B63 PETn11, B64 GND, B65 GND, B66 PETp12, B67 PETn12, B68 GND, B69 GND, B70 PETp13, B71 PETn13, B72 GND, B73 GND, B74 PETp14, B75 PETn14, B76 GND, B77 GND, B78 PETp15, B79 PETn15, B80 GND, B81 ~{{PRSNT2}}, B82 RSVD

## CoaxialSwitch_Testpoint
designator *  value CoaxialSwitch_Testpoint  Reference: TP
Subminiature Coaxial Switch testpoint; ki_keywords: Coaxial Switch RF testpoint; ki_fp_filters: CoaxialSwitch*; Datasheet: ~; Description_: Subminiature Coaxial Switch testpoint
pins: A, C, G

## Conn_01x01_Pin
designator *  value Conn_01x01_Pin  Reference: J
Generic connector, single row, 01x01, script generated; ki_fp_filters: Connector*:*_1x??_*; Datasheet: ~; Description_: Generic connector, single row, 01x01, script generated; ki_keywords: connector
pins: 1 Pin_1

## Conn_01x01_Socket
designator *  value Conn_01x01_Socket  Reference: J
Generic connector, single row, 01x01, script generated; ki_fp_filters: Connector*:*_1x??_*; Datasheet: ~; Description_: Generic connector, single row, 01x01, script generated; ki_keywords: connector
pins: 1 Pin_1

## Conn_01x02_Pin
designator *  value Conn_01x02_Pin  Reference: J
Generic connector, single row, 01x02, script generated; ki_fp_filters: Connector*:*_1x??_*; Datasheet: ~; Description_: Generic connector, single row, 01x02, script generated; ki_keywords: connector
pins: 1 Pin_1, 2 Pin_2

## Conn_01x02_Socket
designator *  value Conn_01x02_Socket  Reference: J
Generic connector, single row, 01x02, script generated; ki_fp_filters: Connector*:*_1x??_*; Datasheet: ~; Description_: Generic connector, single row, 01x02, script generated; ki_keywords: connector
pins: 1 Pin_1, 2 Pin_2

## Conn_01x03_Pin
designator *  value Conn_01x03_Pin  Reference: J
Generic connector, single row, 01x03, script generated; ki_fp_filters: Connector*:*_1x??_*; Datasheet: ~; Description_: Generic connector, single row, 01x03, script generated; ki_keywords: connector
pins: 1 Pin_1, 2 Pin_2, 3 Pin_3

## Conn_01x03_Socket
designator *  value Conn_01x03_Socket  Reference: J
Generic connector, single row, 01x03, script generated; ki_fp_filters: Connector*:*_1x??_*; Datasheet: ~; Description_: Generic connector, single row, 01x03, script generated; ki_keywords: connector
pins: 1 Pin_1, 2 Pin_2, 3 Pin_3

## Conn_01x04_Pin
designator *  value Conn_01x04_Pin  Reference: J
Generic connector, single row, 01x04, script generated; ki_fp_filters: Connector*:*_1x??_*; Datasheet: ~; Description_: Generic connector, single row, 01x04, script generated; ki_keywords: connector
pins: 1 Pin_1, 2 Pin_2, 3 Pin_3, 4 Pin_4

## Conn_01x04_Socket
designator *  value Conn_01x04_Socket  Reference: J
Generic connector, single row, 01x04, script generated; ki_fp_filters: Connector*:*_1x??_*; Datasheet: ~; Description_: Generic connector, single row, 01x04, script generated; ki_keywords: connector
pins: 1 Pin_1, 2 Pin_2, 3 Pin_3, 4 Pin_4

## Conn_01x05_Pin
designator *  value Conn_01x05_Pin  Reference: J
Generic connector, single row, 01x05, script generated; ki_fp_filters: Connector*:*_1x??_*; Datasheet: ~; Description_: Generic connector, single row, 01x05, script generated; ki_keywords: connector
footprint PinHeader_1x05_P2.54mm_Horizontal
footprint PinHeader_1x05_P2.54mm_Vertical
footprint PinHeader_1x05_P2.00mm_Vertical
pins: 1 Pin_1, 2 Pin_2, 3 Pin_3, 4 Pin_4, 5 Pin_5

## Conn_01x05_Socket
designator *  value Conn_01x05_Socket  Reference: J
Generic connector, single row, 01x05, script generated; ki_fp_filters: Connector*:*_1x??_*; Datasheet: ~; Description_: Generic connector, single row, 01x05, script generated; ki_keywords: connector
pins: 1 Pin_1, 2 Pin_2, 3 Pin_3, 4 Pin_4, 5 Pin_5

## Conn_01x06_Pin
designator *  value Conn_01x06_Pin  Reference: J
Generic connector, single row, 01x06, script generated; ki_fp_filters: Connector*:*_1x??_*; Datasheet: ~; Description_: Generic connector, single row, 01x06, script generated; ki_keywords: connector
pins: 1 Pin_1, 2 Pin_2, 3 Pin_3, 4 Pin_4, 5 Pin_5, 6 Pin_6

## Conn_01x06_Socket
designator *  value Conn_01x06_Socket  Reference: J
Generic connector, single row, 01x06, script generated; ki_fp_filters: Connector*:*_1x??_*; Datasheet: ~; Description_: Generic connector, single row, 01x06, script generated; ki_keywords: connector
pins: 1 Pin_1, 2 Pin_2, 3 Pin_3, 4 Pin_4, 5 Pin_5, 6 Pin_6

## Conn_01x07_Pin
designator *  value Conn_01x07_Pin  Reference: J
Generic connector, single row, 01x07, script generated; ki_fp_filters: Connector*:*_1x??_*; Datasheet: ~; Description_: Generic connector, single row, 01x07, script generated; ki_keywords: connector
pins: 1 Pin_1, 2 Pin_2, 3 Pin_3, 4 Pin_4, 5 Pin_5, 6 Pin_6, 7 Pin_7

## Conn_01x07_Socket
designator *  value Conn_01x07_Socket  Reference: J
Generic connector, single row, 01x07, script generated; ki_fp_filters: Connector*:*_1x??_*; Datasheet: ~; Description_: Generic connector, single row, 01x07, script generated; ki_keywords: connector
pins: 1 Pin_1, 2 Pin_2, 3 Pin_3, 4 Pin_4, 5 Pin_5, 6 Pin_6, 7 Pin_7

## Conn_01x08_Pin
designator *  value Conn_01x08_Pin  Reference: J
Generic connector, single row, 01x08, script generated; ki_fp_filters: Connector*:*_1x??_*; Datasheet: ~; Description_: Generic connector, single row, 01x08, script generated; ki_keywords: connector
pins: 1 Pin_1, 2 Pin_2, 3 Pin_3, 4 Pin_4, 5 Pin_5, 6 Pin_6, 7 Pin_7, 8 Pin_8

## Conn_01x08_Socket
designator *  value Conn_01x08_Socket  Reference: J
Generic connector, single row, 01x08, script generated; ki_fp_filters: Connector*:*_1x??_*; Datasheet: ~; Description_: Generic connector, single row, 01x08, script generated; ki_keywords: connector
pins: 1 Pin_1, 2 Pin_2, 3 Pin_3, 4 Pin_4, 5 Pin_5, 6 Pin_6, 7 Pin_7, 8 Pin_8

## Conn_01x09_Pin
designator *  value Conn_01x09_Pin  Reference: J
Generic connector, single row, 01x09, script generated; ki_fp_filters: Connector*:*_1x??_*; Datasheet: ~; Description_: Generic connector, single row, 01x09, script generated; ki_keywords: connector
pins: 1 Pin_1, 2 Pin_2, 3 Pin_3, 4 Pin_4, 5 Pin_5, 6 Pin_6, 7 Pin_7, 8 Pin_8, 9 Pin_9

## Conn_01x09_Socket
designator *  value Conn_01x09_Socket  Reference: J
Generic connector, single row, 01x09, script generated; ki_fp_filters: Connector*:*_1x??_*; Datasheet: ~; Description_: Generic connector, single row, 01x09, script generated; ki_keywords: connector
pins: 1 Pin_1, 2 Pin_2, 3 Pin_3, 4 Pin_4, 5 Pin_5, 6 Pin_6, 7 Pin_7, 8 Pin_8, 9 Pin_9

## Conn_01x10_Pin
designator *  value Conn_01x10_Pin  Reference: J
Generic connector, single row, 01x10, script generated; ki_fp_filters: Connector*:*_1x??_*; Datasheet: ~; Description_: Generic connector, single row, 01x10, script generated; ki_keywords: connector
pins: 1 Pin_1, 2 Pin_2, 3 Pin_3, 4 Pin_4, 5 Pin_5, 6 Pin_6, 7 Pin_7, 8 Pin_8, 9 Pin_9, 10 Pin_10

## Conn_01x10_Socket
designator *  value Conn_01x10_Socket  Reference: J
Generic connector, single row, 01x10, script generated; ki_fp_filters: Connector*:*_1x??_*; Datasheet: ~; Description_: Generic connector, single row, 01x10, script generated; ki_keywords: connector
pins: 1 Pin_1, 2 Pin_2, 3 Pin_3, 4 Pin_4, 5 Pin_5, 6 Pin_6, 7 Pin_7, 8 Pin_8, 9 Pin_9, 10 Pin_10

## Conn_01x11_Pin
designator *  value Conn_01x11_Pin  Reference: J
Generic connector, single row, 01x11, script generated; ki_fp_filters: Connector*:*_1x??_*; Datasheet: ~; Description_: Generic connector, single row, 01x11, script generated; ki_keywords: connector
pins: 1 Pin_1, 2 Pin_2, 3 Pin_3, 4 Pin_4, 5 Pin_5, 6 Pin_6, 7 Pin_7, 8 Pin_8, 9 Pin_9, 10 Pin_10, 11 Pin_11

## Conn_01x11_Socket
designator *  value Conn_01x11_Socket  Reference: J
Generic connector, single row, 01x11, script generated; ki_fp_filters: Connector*:*_1x??_*; Datasheet: ~; Description_: Generic connector, single row, 01x11, script generated; ki_keywords: connector
pins: 1 Pin_1, 2 Pin_2, 3 Pin_3, 4 Pin_4, 5 Pin_5, 6 Pin_6, 7 Pin_7, 8 Pin_8, 9 Pin_9, 10 Pin_10, 11 Pin_11

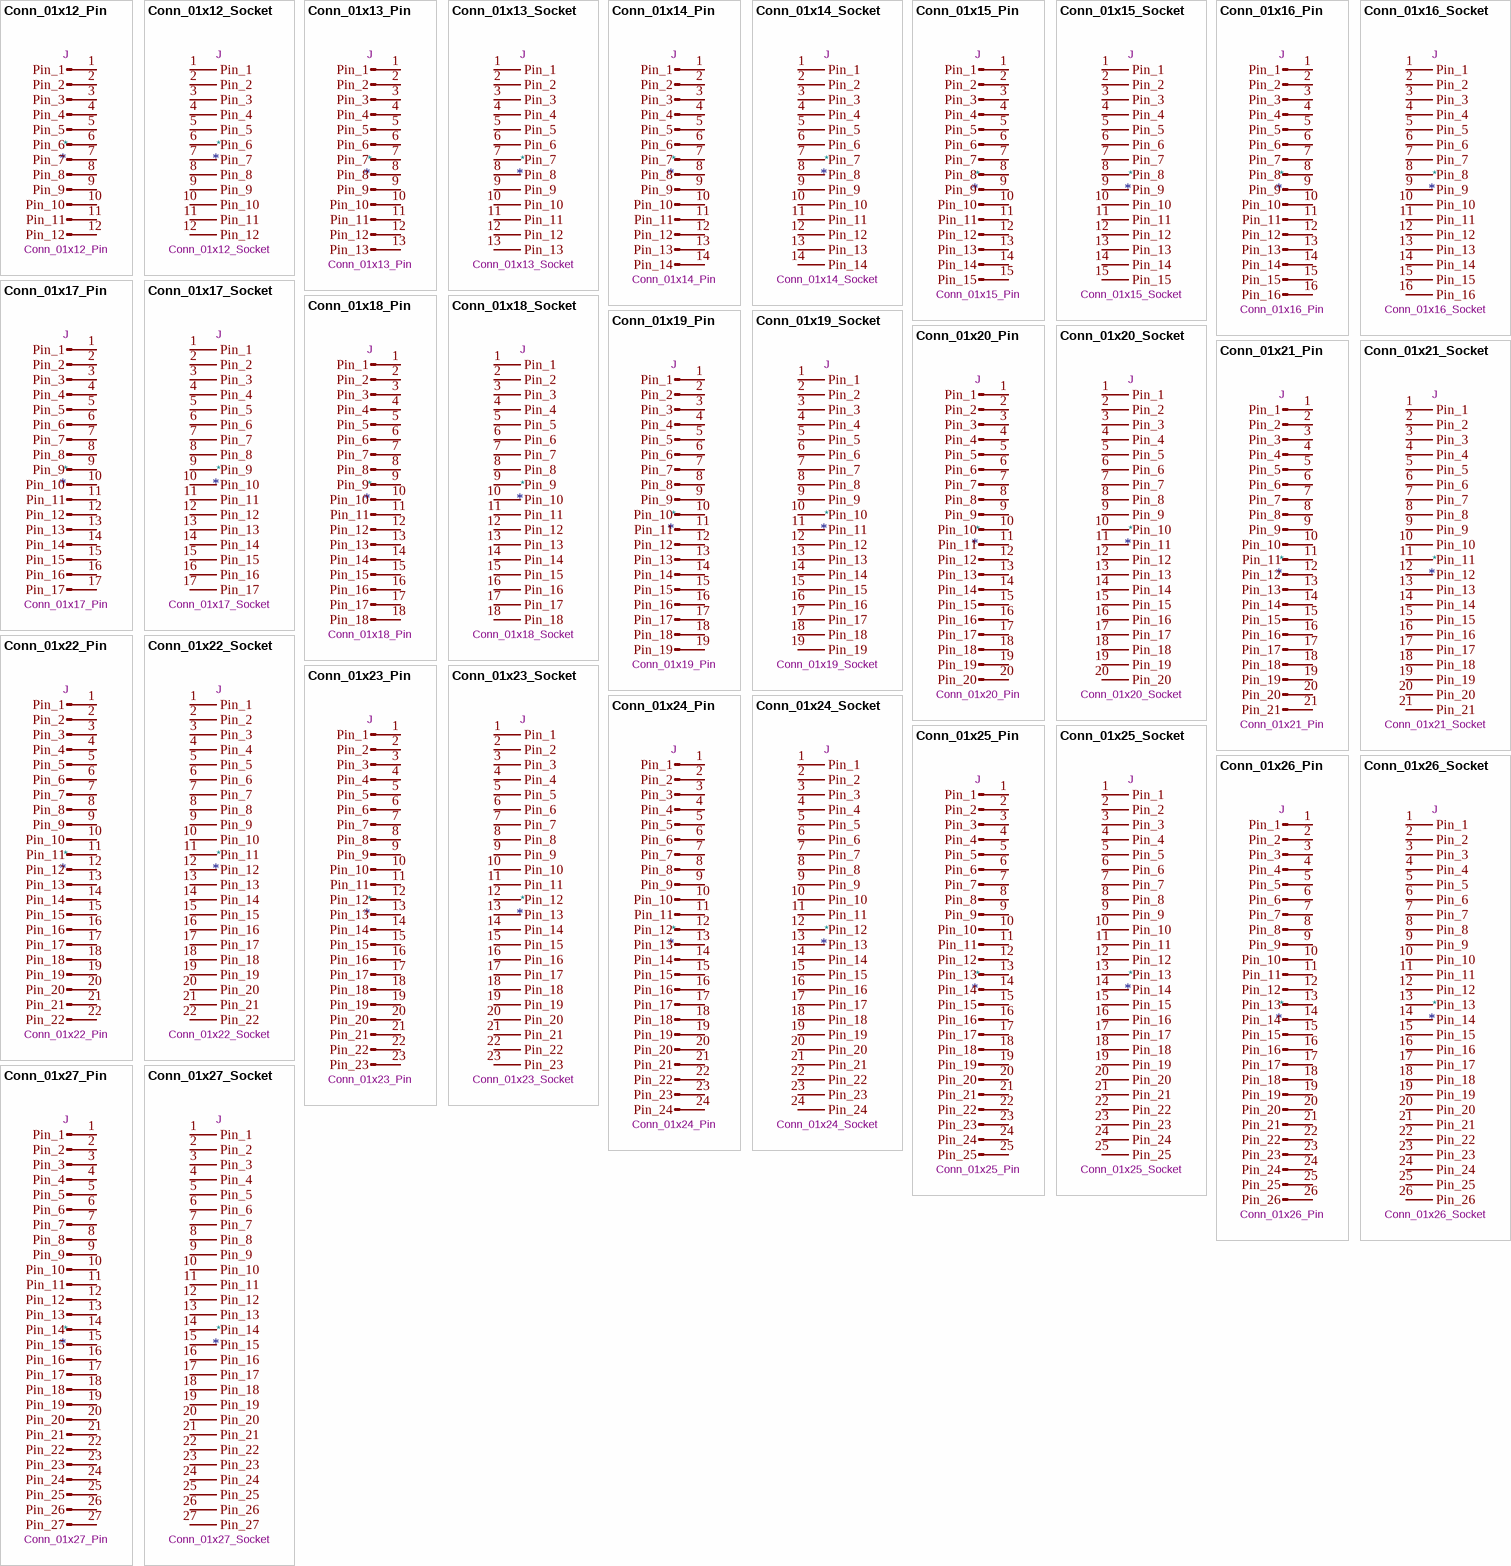
[diagram p3: symbols Conn_01x12_Pin to Conn_01x27_Socket]

## Conn_01x12_Pin
designator *  value Conn_01x12_Pin  Reference: J
Generic connector, single row, 01x12, script generated; ki_fp_filters: Connector*:*_1x??_*; Datasheet: ~; Description_: Generic connector, single row, 01x12, script generated; ki_keywords: connector
pins: 1 Pin_1, 2 Pin_2, 3 Pin_3, 4 Pin_4, 5 Pin_5, 6 Pin_6, 7 Pin_7, 8 Pin_8, 9 Pin_9, 10 Pin_10, 11 Pin_11, 12 Pin_12

## Conn_01x12_Socket
designator *  value Conn_01x12_Socket  Reference: J
Generic connector, single row, 01x12, script generated; ki_fp_filters: Connector*:*_1x??_*; Datasheet: ~; Description_: Generic connector, single row, 01x12, script generated; ki_keywords: connector
pins: 1 Pin_1, 2 Pin_2, 3 Pin_3, 4 Pin_4, 5 Pin_5, 6 Pin_6, 7 Pin_7, 8 Pin_8, 9 Pin_9, 10 Pin_10, 11 Pin_11, 12 Pin_12

## Conn_01x13_Pin
designator *  value Conn_01x13_Pin  Reference: J
Generic connector, single row, 01x13, script generated; ki_fp_filters: Connector*:*_1x??_*; Datasheet: ~; Description_: Generic connector, single row, 01x13, script generated; ki_keywords: connector
pins: 1 Pin_1, 2 Pin_2, 3 Pin_3, 4 Pin_4, 5 Pin_5, 6 Pin_6, 7 Pin_7, 8 Pin_8, 9 Pin_9, 10 Pin_10, 11 Pin_11, 12 Pin_12, 13 Pin_13

## Conn_01x13_Socket
designator *  value Conn_01x13_Socket  Reference: J
Generic connector, single row, 01x13, script generated; ki_fp_filters: Connector*:*_1x??_*; Datasheet: ~; Description_: Generic connector, single row, 01x13, script generated; ki_keywords: connector
pins: 1 Pin_1, 2 Pin_2, 3 Pin_3, 4 Pin_4, 5 Pin_5, 6 Pin_6, 7 Pin_7, 8 Pin_8, 9 Pin_9, 10 Pin_10, 11 Pin_11, 12 Pin_12, 13 Pin_13

## Conn_01x14_Pin
designator *  value Conn_01x14_Pin  Reference: J
Generic connector, single row, 01x14, script generated; ki_fp_filters: Connector*:*_1x??_*; Datasheet: ~; Description_: Generic connector, single row, 01x14, script generated; ki_keywords: connector
pins: 1 Pin_1, 2 Pin_2, 3 Pin_3, 4 Pin_4, 5 Pin_5, 6 Pin_6, 7 Pin_7, 8 Pin_8, 9 Pin_9, 10 Pin_10, 11 Pin_11, 12 Pin_12, 13 Pin_13, 14 Pin_14

## Conn_01x14_Socket
designator *  value Conn_01x14_Socket  Reference: J
Generic connector, single row, 01x14, script generated; ki_fp_filters: Connector*:*_1x??_*; Datasheet: ~; Description_: Generic connector, single row, 01x14, script generated; ki_keywords: connector
pins: 1 Pin_1, 2 Pin_2, 3 Pin_3, 4 Pin_4, 5 Pin_5, 6 Pin_6, 7 Pin_7, 8 Pin_8, 9 Pin_9, 10 Pin_10, 11 Pin_11, 12 Pin_12, 13 Pin_13, 14 Pin_14

## Conn_01x15_Pin
designator *  value Conn_01x15_Pin  Reference: J
Generic connector, single row, 01x15, script generated; ki_fp_filters: Connector*:*_1x??_*; Datasheet: ~; Description_: Generic connector, single row, 01x15, script generated; ki_keywords: connector
pins: 1 Pin_1, 2 Pin_2, 3 Pin_3, 4 Pin_4, 5 Pin_5, 6 Pin_6, 7 Pin_7, 8 Pin_8, 9 Pin_9, 10 Pin_10, 11 Pin_11, 12 Pin_12, 13 Pin_13, 14 Pin_14, 15 Pin_15

## Conn_01x15_Socket
designator *  value Conn_01x15_Socket  Reference: J
Generic connector, single row, 01x15, script generated; ki_fp_filters: Connector*:*_1x??_*; Datasheet: ~; Description_: Generic connector, single row, 01x15, script generated; ki_keywords: connector
pins: 1 Pin_1, 2 Pin_2, 3 Pin_3, 4 Pin_4, 5 Pin_5, 6 Pin_6, 7 Pin_7, 8 Pin_8, 9 Pin_9, 10 Pin_10, 11 Pin_11, 12 Pin_12, 13 Pin_13, 14 Pin_14, 15 Pin_15

## Conn_01x16_Pin
designator *  value Conn_01x16_Pin  Reference: J
Generic connector, single row, 01x16, script generated; ki_fp_filters: Connector*:*_1x??_*; Datasheet: ~; Description_: Generic connector, single row, 01x16, script generated; ki_keywords: connector
pins: 1 Pin_1, 2 Pin_2, 3 Pin_3, 4 Pin_4, 5 Pin_5, 6 Pin_6, 7 Pin_7, 8 Pin_8, 9 Pin_9, 10 Pin_10, 11 Pin_11, 12 Pin_12, 13 Pin_13, 14 Pin_14, 15 Pin_15, 16 Pin_16

## Conn_01x16_Socket
designator *  value Conn_01x16_Socket  Reference: J
Generic connector, single row, 01x16, script generated; ki_fp_filters: Connector*:*_1x??_*; Datasheet: ~; Description_: Generic connector, single row, 01x16, script generated; ki_keywords: connector
pins: 1 Pin_1, 2 Pin_2, 3 Pin_3, 4 Pin_4, 5 Pin_5, 6 Pin_6, 7 Pin_7, 8 Pin_8, 9 Pin_9, 10 Pin_10, 11 Pin_11, 12 Pin_12, 13 Pin_13, 14 Pin_14, 15 Pin_15, 16 Pin_16

## Conn_01x17_Pin
designator *  value Conn_01x17_Pin  Reference: J
Generic connector, single row, 01x17, script generated; ki_fp_filters: Connector*:*_1x??_*; Datasheet: ~; Description_: Generic connector, single row, 01x17, script generated; ki_keywords: connector
pins: 1 Pin_1, 2 Pin_2, 3 Pin_3, 4 Pin_4, 5 Pin_5, 6 Pin_6, 7 Pin_7, 8 Pin_8, 9 Pin_9, 10 Pin_10, 11 Pin_11, 12 Pin_12, 13 Pin_13, 14 Pin_14, 15 Pin_15, 16 Pin_16, 17 Pin_17

## Conn_01x17_Socket
designator *  value Conn_01x17_Socket  Reference: J
Generic connector, single row, 01x17, script generated; ki_fp_filters: Connector*:*_1x??_*; Datasheet: ~; Description_: Generic connector, single row, 01x17, script generated; ki_keywords: connector
pins: 1 Pin_1, 2 Pin_2, 3 Pin_3, 4 Pin_4, 5 Pin_5, 6 Pin_6, 7 Pin_7, 8 Pin_8, 9 Pin_9, 10 Pin_10, 11 Pin_11, 12 Pin_12, 13 Pin_13, 14 Pin_14, 15 Pin_15, 16 Pin_16, 17 Pin_17

## Conn_01x18_Pin
designator *  value Conn_01x18_Pin  Reference: J
Generic connector, single row, 01x18, script generated; ki_fp_filters: Connector*:*_1x??_*; Datasheet: ~; Description_: Generic connector, single row, 01x18, script generated; ki_keywords: connector
pins: 1 Pin_1, 2 Pin_2, 3 Pin_3, 4 Pin_4, 5 Pin_5, 6 Pin_6, 7 Pin_7, 8 Pin_8, 9 Pin_9, 10 Pin_10, 11 Pin_11, 12 Pin_12, 13 Pin_13, 14 Pin_14, 15 Pin_15, 16 Pin_16, 17 Pin_17, 18 Pin_18

## Conn_01x18_Socket
designator *  value Conn_01x18_Socket  Reference: J
Generic connector, single row, 01x18, script generated; ki_fp_filters: Connector*:*_1x??_*; Datasheet: ~; Description_: Generic connector, single row, 01x18, script generated; ki_keywords: connector
pins: 1 Pin_1, 2 Pin_2, 3 Pin_3, 4 Pin_4, 5 Pin_5, 6 Pin_6, 7 Pin_7, 8 Pin_8, 9 Pin_9, 10 Pin_10, 11 Pin_11, 12 Pin_12, 13 Pin_13, 14 Pin_14, 15 Pin_15, 16 Pin_16, 17 Pin_17, 18 Pin_18

## Conn_01x19_Pin
designator *  value Conn_01x19_Pin  Reference: J
Generic connector, single row, 01x19, script generated; ki_fp_filters: Connector*:*_1x??_*; Datasheet: ~; Description_: Generic connector, single row, 01x19, script generated; ki_keywords: connector
pins: 1 Pin_1, 2 Pin_2, 3 Pin_3, 4 Pin_4, 5 Pin_5, 6 Pin_6, 7 Pin_7, 8 Pin_8, 9 Pin_9, 10 Pin_10, 11 Pin_11, 12 Pin_12, 13 Pin_13, 14 Pin_14, 15 Pin_15, 16 Pin_16, 17 Pin_17, 18 Pin_18, 19 Pin_19

## Conn_01x19_Socket
designator *  value Conn_01x19_Socket  Reference: J
Generic connector, single row, 01x19, script generated; ki_fp_filters: Connector*:*_1x??_*; Datasheet: ~; Description_: Generic connector, single row, 01x19, script generated; ki_keywords: connector
pins: 1 Pin_1, 2 Pin_2, 3 Pin_3, 4 Pin_4, 5 Pin_5, 6 Pin_6, 7 Pin_7, 8 Pin_8, 9 Pin_9, 10 Pin_10, 11 Pin_11, 12 Pin_12, 13 Pin_13, 14 Pin_14, 15 Pin_15, 16 Pin_16, 17 Pin_17, 18 Pin_18, 19 Pin_19

## Conn_01x20_Pin
designator *  value Conn_01x20_Pin  Reference: J
Generic connector, single row, 01x20, script generated; ki_fp_filters: Connector*:*_1x??_*; Datasheet: ~; Description_: Generic connector, single row, 01x20, script generated; ki_keywords: connector
pins: 1 Pin_1, 2 Pin_2, 3 Pin_3, 4 Pin_4, 5 Pin_5, 6 Pin_6, 7 Pin_7, 8 Pin_8, 9 Pin_9, 10 Pin_10, 11 Pin_11, 12 Pin_12, 13 Pin_13, 14 Pin_14, 15 Pin_15, 16 Pin_16, 17 Pin_17, 18 Pin_18, 19 Pin_19, 20 Pin_20

## Conn_01x20_Socket
designator *  value Conn_01x20_Socket  Reference: J
Generic connector, single row, 01x20, script generated; ki_fp_filters: Connector*:*_1x??_*; Datasheet: ~; Description_: Generic connector, single row, 01x20, script generated; ki_keywords: connector
pins: 1 Pin_1, 2 Pin_2, 3 Pin_3, 4 Pin_4, 5 Pin_5, 6 Pin_6, 7 Pin_7, 8 Pin_8, 9 Pin_9, 10 Pin_10, 11 Pin_11, 12 Pin_12, 13 Pin_13, 14 Pin_14, 15 Pin_15, 16 Pin_16, 17 Pin_17, 18 Pin_18, 19 Pin_19, 20 Pin_20

## Conn_01x21_Pin
designator *  value Conn_01x21_Pin  Reference: J
Generic connector, single row, 01x21, script generated; ki_fp_filters: Connector*:*_1x??_*; Datasheet: ~; Description_: Generic connector, single row, 01x21, script generated; ki_keywords: connector
pins: 1 Pin_1, 2 Pin_2, 3 Pin_3, 4 Pin_4, 5 Pin_5, 6 Pin_6, 7 Pin_7, 8 Pin_8, 9 Pin_9, 10 Pin_10, 11 Pin_11, 12 Pin_12, 13 Pin_13, 14 Pin_14, 15 Pin_15, 16 Pin_16, 17 Pin_17, 18 Pin_18, 19 Pin_19, 20 Pin_20, 21 Pin_21

## Conn_01x21_Socket
designator *  value Conn_01x21_Socket  Reference: J
Generic connector, single row, 01x21, script generated; ki_fp_filters: Connector*:*_1x??_*; Datasheet: ~; Description_: Generic connector, single row, 01x21, script generated; ki_keywords: connector
pins: 1 Pin_1, 2 Pin_2, 3 Pin_3, 4 Pin_4, 5 Pin_5, 6 Pin_6, 7 Pin_7, 8 Pin_8, 9 Pin_9, 10 Pin_10, 11 Pin_11, 12 Pin_12, 13 Pin_13, 14 Pin_14, 15 Pin_15, 16 Pin_16, 17 Pin_17, 18 Pin_18, 19 Pin_19, 20 Pin_20, 21 Pin_21

## Conn_01x22_Pin
designator *  value Conn_01x22_Pin  Reference: J
Generic connector, single row, 01x22, script generated; ki_fp_filters: Connector*:*_1x??_*; Datasheet: ~; Description_: Generic connector, single row, 01x22, script generated; ki_keywords: connector
pins: 1 Pin_1, 2 Pin_2, 3 Pin_3, 4 Pin_4, 5 Pin_5, 6 Pin_6, 7 Pin_7, 8 Pin_8, 9 Pin_9, 10 Pin_10, 11 Pin_11, 12 Pin_12, 13 Pin_13, 14 Pin_14, 15 Pin_15, 16 Pin_16, 17 Pin_17, 18 Pin_18, 19 Pin_19, 20 Pin_20, 21 Pin_21, 22 Pin_22

## Conn_01x22_Socket
designator *  value Conn_01x22_Socket  Reference: J
Generic connector, single row, 01x22, script generated; ki_fp_filters: Connector*:*_1x??_*; Datasheet: ~; Description_: Generic connector, single row, 01x22, script generated; ki_keywords: connector
pins: 1 Pin_1, 2 Pin_2, 3 Pin_3, 4 Pin_4, 5 Pin_5, 6 Pin_6, 7 Pin_7, 8 Pin_8, 9 Pin_9, 10 Pin_10, 11 Pin_11, 12 Pin_12, 13 Pin_13, 14 Pin_14, 15 Pin_15, 16 Pin_16, 17 Pin_17, 18 Pin_18, 19 Pin_19, 20 Pin_20, 21 Pin_21, 22 Pin_22

## Conn_01x23_Pin
designator *  value Conn_01x23_Pin  Reference: J
Generic connector, single row, 01x23, script generated; ki_fp_filters: Connector*:*_1x??_*; Datasheet: ~; Description_: Generic connector, single row, 01x23, script generated; ki_keywords: connector
pins: 1 Pin_1, 2 Pin_2, 3 Pin_3, 4 Pin_4, 5 Pin_5, 6 Pin_6, 7 Pin_7, 8 Pin_8, 9 Pin_9, 10 Pin_10, 11 Pin_11, 12 Pin_12, 13 Pin_13, 14 Pin_14, 15 Pin_15, 16 Pin_16, 17 Pin_17, 18 Pin_18, 19 Pin_19, 20 Pin_20, 21 Pin_21, 22 Pin_22, 23 Pin_23

## Conn_01x23_Socket
designator *  value Conn_01x23_Socket  Reference: J
Generic connector, single row, 01x23, script generated; ki_fp_filters: Connector*:*_1x??_*; Datasheet: ~; Description_: Generic connector, single row, 01x23, script generated; ki_keywords: connector
pins: 1 Pin_1, 2 Pin_2, 3 Pin_3, 4 Pin_4, 5 Pin_5, 6 Pin_6, 7 Pin_7, 8 Pin_8, 9 Pin_9, 10 Pin_10, 11 Pin_11, 12 Pin_12, 13 Pin_13, 14 Pin_14, 15 Pin_15, 16 Pin_16, 17 Pin_17, 18 Pin_18, 19 Pin_19, 20 Pin_20, 21 Pin_21, 22 Pin_22, 23 Pin_23

## Conn_01x24_Pin
designator *  value Conn_01x24_Pin  Reference: J
Generic connector, single row, 01x24, script generated; ki_fp_filters: Connector*:*_1x??_*; Datasheet: ~; Description_: Generic connector, single row, 01x24, script generated; ki_keywords: connector
pins: 1 Pin_1, 2 Pin_2, 3 Pin_3, 4 Pin_4, 5 Pin_5, 6 Pin_6, 7 Pin_7, 8 Pin_8, 9 Pin_9, 10 Pin_10, 11 Pin_11, 12 Pin_12, 13 Pin_13, 14 Pin_14, 15 Pin_15, 16 Pin_16, 17 Pin_17, 18 Pin_18, 19 Pin_19, 20 Pin_20, 21 Pin_21, 22 Pin_22, 23 Pin_23, 24 Pin_24

## Conn_01x24_Socket
designator *  value Conn_01x24_Socket  Reference: J
Generic connector, single row, 01x24, script generated; ki_fp_filters: Connector*:*_1x??_*; Datasheet: ~; Description_: Generic connector, single row, 01x24, script generated; ki_keywords: connector
pins: 1 Pin_1, 2 Pin_2, 3 Pin_3, 4 Pin_4, 5 Pin_5, 6 Pin_6, 7 Pin_7, 8 Pin_8, 9 Pin_9, 10 Pin_10, 11 Pin_11, 12 Pin_12, 13 Pin_13, 14 Pin_14, 15 Pin_15, 16 Pin_16, 17 Pin_17, 18 Pin_18, 19 Pin_19, 20 Pin_20, 21 Pin_21, 22 Pin_22, 23 Pin_23, 24 Pin_24

## Conn_01x25_Pin
designator *  value Conn_01x25_Pin  Reference: J
Generic connector, single row, 01x25, script generated; ki_fp_filters: Connector*:*_1x??_*; Datasheet: ~; Description_: Generic connector, single row, 01x25, script generated; ki_keywords: connector
pins: 1 Pin_1, 2 Pin_2, 3 Pin_3, 4 Pin_4, 5 Pin_5, 6 Pin_6, 7 Pin_7, 8 Pin_8, 9 Pin_9, 10 Pin_10, 11 Pin_11, 12 Pin_12, 13 Pin_13, 14 Pin_14, 15 Pin_15, 16 Pin_16, 17 Pin_17, 18 Pin_18, 19 Pin_19, 20 Pin_20, 21 Pin_21, 22 Pin_22, 23 Pin_23, 24 Pin_24, 25 Pin_25

## Conn_01x25_Socket
designator *  value Conn_01x25_Socket  Reference: J
Generic connector, single row, 01x25, script generated; ki_fp_filters: Connector*:*_1x??_*; Datasheet: ~; Description_: Generic connector, single row, 01x25, script generated; ki_keywords: connector
pins: 1 Pin_1, 2 Pin_2, 3 Pin_3, 4 Pin_4, 5 Pin_5, 6 Pin_6, 7 Pin_7, 8 Pin_8, 9 Pin_9, 10 Pin_10, 11 Pin_11, 12 Pin_12, 13 Pin_13, 14 Pin_14, 15 Pin_15, 16 Pin_16, 17 Pin_17, 18 Pin_18, 19 Pin_19, 20 Pin_20, 21 Pin_21, 22 Pin_22, 23 Pin_23, 24 Pin_24, 25 Pin_25

## Conn_01x26_Pin
designator *  value Conn_01x26_Pin  Reference: J
Generic connector, single row, 01x26, script generated; ki_fp_filters: Connector*:*_1x??_*; Datasheet: ~; Description_: Generic connector, single row, 01x26, script generated; ki_keywords: connector
pins: 1 Pin_1, 2 Pin_2, 3 Pin_3, 4 Pin_4, 5 Pin_5, 6 Pin_6, 7 Pin_7, 8 Pin_8, 9 Pin_9, 10 Pin_10, 11 Pin_11, 12 Pin_12, 13 Pin_13, 14 Pin_14, 15 Pin_15, 16 Pin_16, 17 Pin_17, 18 Pin_18, 19 Pin_19, 20 Pin_20, 21 Pin_21, 22 Pin_22, 23 Pin_23, 24 Pin_24, 25 Pin_25, 26 Pin_26

## Conn_01x26_Socket
designator *  value Conn_01x26_Socket  Reference: J
Generic connector, single row, 01x26, script generated; ki_fp_filters: Connector*:*_1x??_*; Datasheet: ~; Description_: Generic connector, single row, 01x26, script generated; ki_keywords: connector
pins: 1 Pin_1, 2 Pin_2, 3 Pin_3, 4 Pin_4, 5 Pin_5, 6 Pin_6, 7 Pin_7, 8 Pin_8, 9 Pin_9, 10 Pin_10, 11 Pin_11, 12 Pin_12, 13 Pin_13, 14 Pin_14, 15 Pin_15, 16 Pin_16, 17 Pin_17, 18 Pin_18, 19 Pin_19, 20 Pin_20, 21 Pin_21, 22 Pin_22, 23 Pin_23, 24 Pin_24, 25 Pin_25, 26 Pin_26

## Conn_01x27_Pin
designator *  value Conn_01x27_Pin  Reference: J
Generic connector, single row, 01x27, script generated; ki_fp_filters: Connector*:*_1x??_*; Datasheet: ~; Description_: Generic connector, single row, 01x27, script generated; ki_keywords: connector
pins: 1 Pin_1, 2 Pin_2, 3 Pin_3, 4 Pin_4, 5 Pin_5, 6 Pin_6, 7 Pin_7, 8 Pin_8, 9 Pin_9, 10 Pin_10, 11 Pin_11, 12 Pin_12, 13 Pin_13, 14 Pin_14, 15 Pin_15, 16 Pin_16, 17 Pin_17, 18 Pin_18, 19 Pin_19, 20 Pin_20, 21 Pin_21, 22 Pin_22, 23 Pin_23, 24 Pin_24, 25 Pin_25, 26 Pin_26, 27 Pin_27

## Conn_01x27_Socket
designator *  value Conn_01x27_Socket  Reference: J
Generic connector, single row, 01x27, script generated; ki_fp_filters: Connector*:*_1x??_*; Datasheet: ~; Description_: Generic connector, single row, 01x27, script generated; ki_keywords: connector
pins: 1 Pin_1, 2 Pin_2, 3 Pin_3, 4 Pin_4, 5 Pin_5, 6 Pin_6, 7 Pin_7, 8 Pin_8, 9 Pin_9, 10 Pin_10, 11 Pin_11, 12 Pin_12, 13 Pin_13, 14 Pin_14, 15 Pin_15, 16 Pin_16, 17 Pin_17, 18 Pin_18, 19 Pin_19, 20 Pin_20, 21 Pin_21, 22 Pin_22, 23 Pin_23, 24 Pin_24, 25 Pin_25, 26 Pin_26, 27 Pin_27

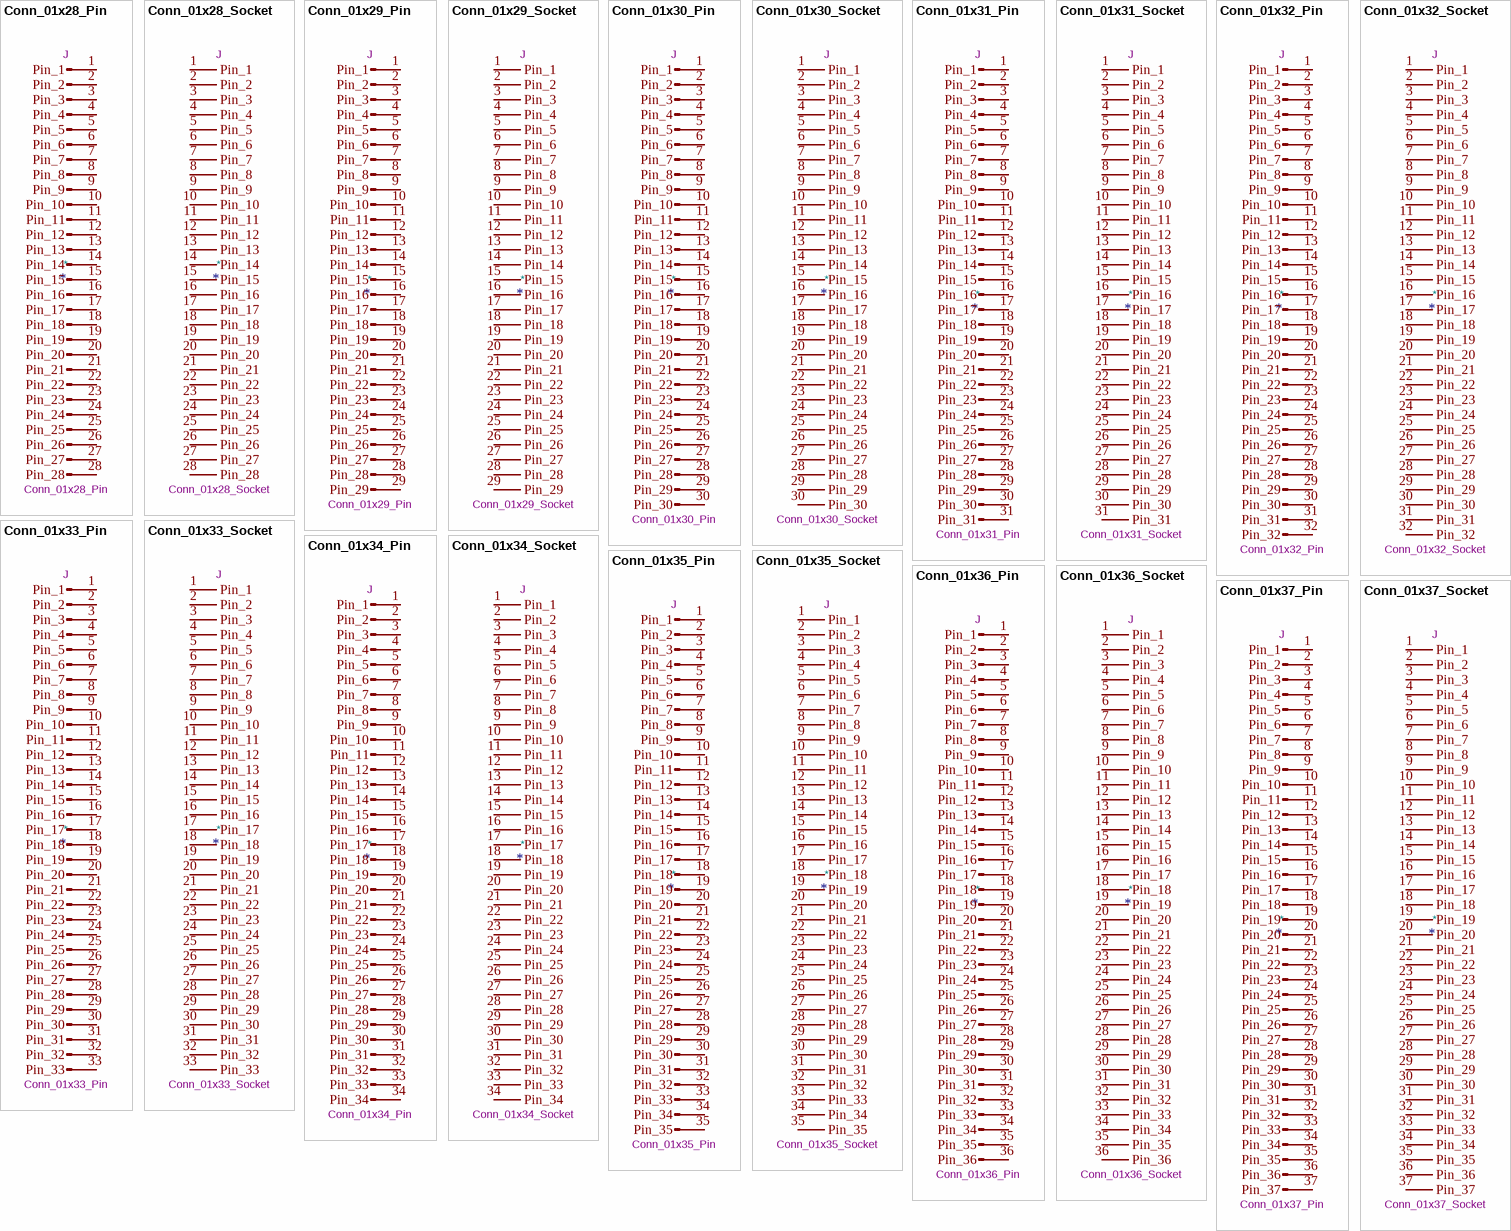
[diagram p4: symbols Conn_01x28_Pin to Conn_01x37_Socket]

## Conn_01x28_Pin
designator *  value Conn_01x28_Pin  Reference: J
Generic connector, single row, 01x28, script generated; ki_fp_filters: Connector*:*_1x??_*; Datasheet: ~; Description_: Generic connector, single row, 01x28, script generated; ki_keywords: connector
pins: 1 Pin_1, 2 Pin_2, 3 Pin_3, 4 Pin_4, 5 Pin_5, 6 Pin_6, 7 Pin_7, 8 Pin_8, 9 Pin_9, 10 Pin_10, 11 Pin_11, 12 Pin_12, 13 Pin_13, 14 Pin_14, 15 Pin_15, 16 Pin_16, 17 Pin_17, 18 Pin_18, 19 Pin_19, 20 Pin_20, 21 Pin_21, 22 Pin_22, 23 Pin_23, 24 Pin_24, 25 Pin_25, 26 Pin_26, 27 Pin_27, 28 Pin_28